# Altium schematic symbol library bethu.SchLib: 608 symbols (part 4 of 6)
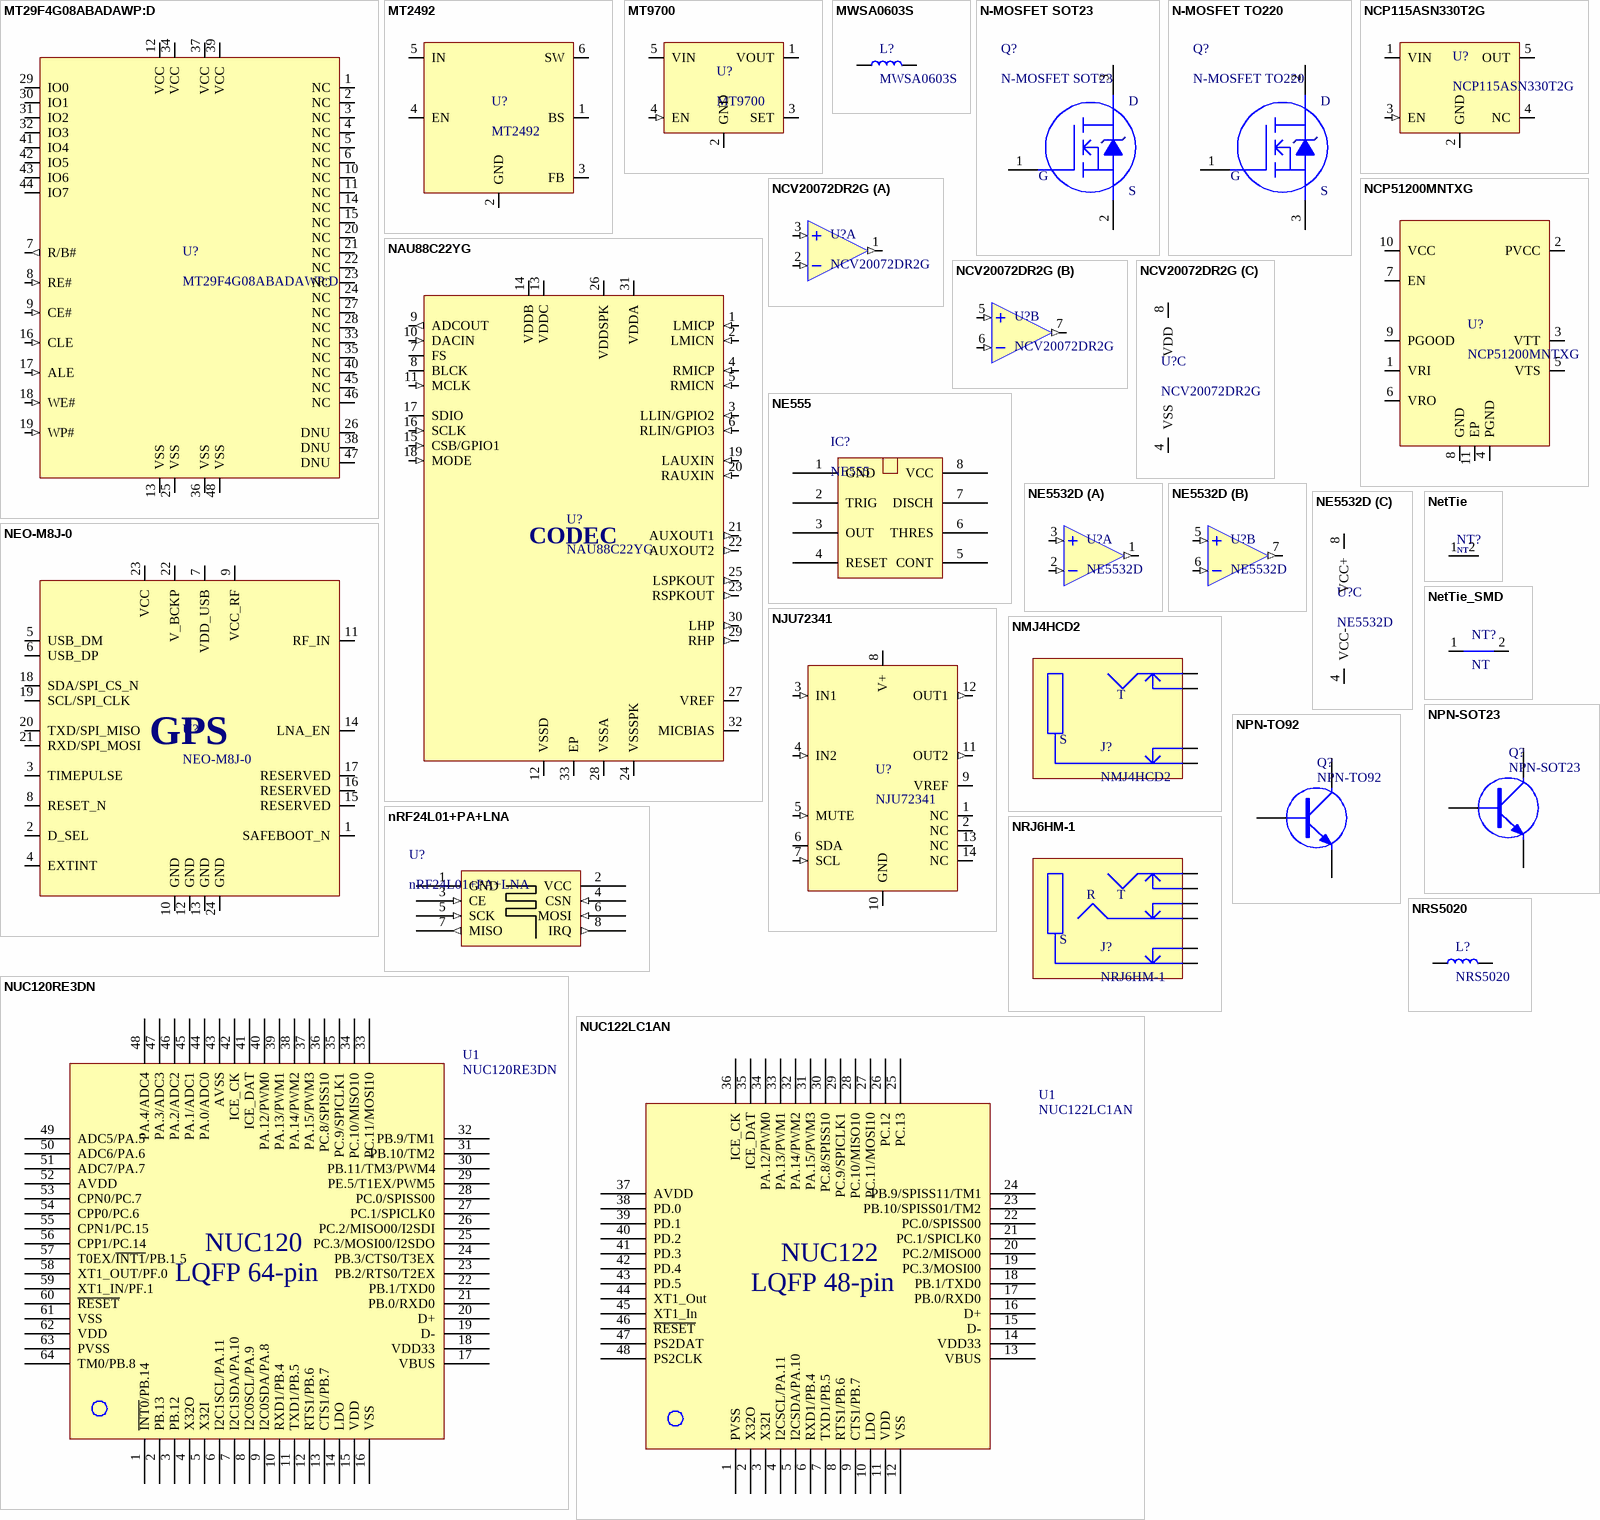
[diagram p43: symbols MT29F4G08ABADAWP:D to NUC122LC1AN]

## NUC122LC1AN
designator U1
footprint LQFP 48 PIN (TSQFP, 48-Leads, Body 9.2x9.2mm (max), Pitch 0.50mm, IPC Medium Density)
pins: 1 PVSS, 2 X32O, 3 X32I, 4 I2CSCL/PA.11, 5 I2CSDA/PA.10, 6 RXD1/PB.4, 7 TXD1/PB.5, 8 RTS1/PB.6, 9 CTS1/PB.7, 10 LDO, 11 VDD, 12 VSS, 13 VBUS, 14 VDD33, 15 D-, 16 D+, 17 PB.0/RXD0, 18 PB.1/TXD0, 19 PC.3/MOSI00, 20 PC.2/MISO00, 21 PC.1/SPICLK0, 22 PC.0/SPISS00, 23 PB.10/SPISS01/TM2, 24 PB.9/SPISS11/TM1, 25 PC.13, 26 PC.12, 27 PC.11/MOSI10, 28 PC.10/MISO10, 29 PC.9/SPICLK1, 30 PC.8/SPISS10, 31 PA.15/PWM3, 32 PA.14/PWM2, 33 PA.13/PWM1, 34 PA.12/PWM0, 35 ICE_DAT, 36 ICE_CK, 37 AVDD, 38 PD.0, 39 PD.1, 40 PD.2, 41 PD.3, 42 PD.4, 43 PD.5, 44 XT1_Out, 45 XT1_In, 46 ~{RESET}, 47 PS2DAT, 48 PS2CLK
text: NUC122; LQFP 48-pin

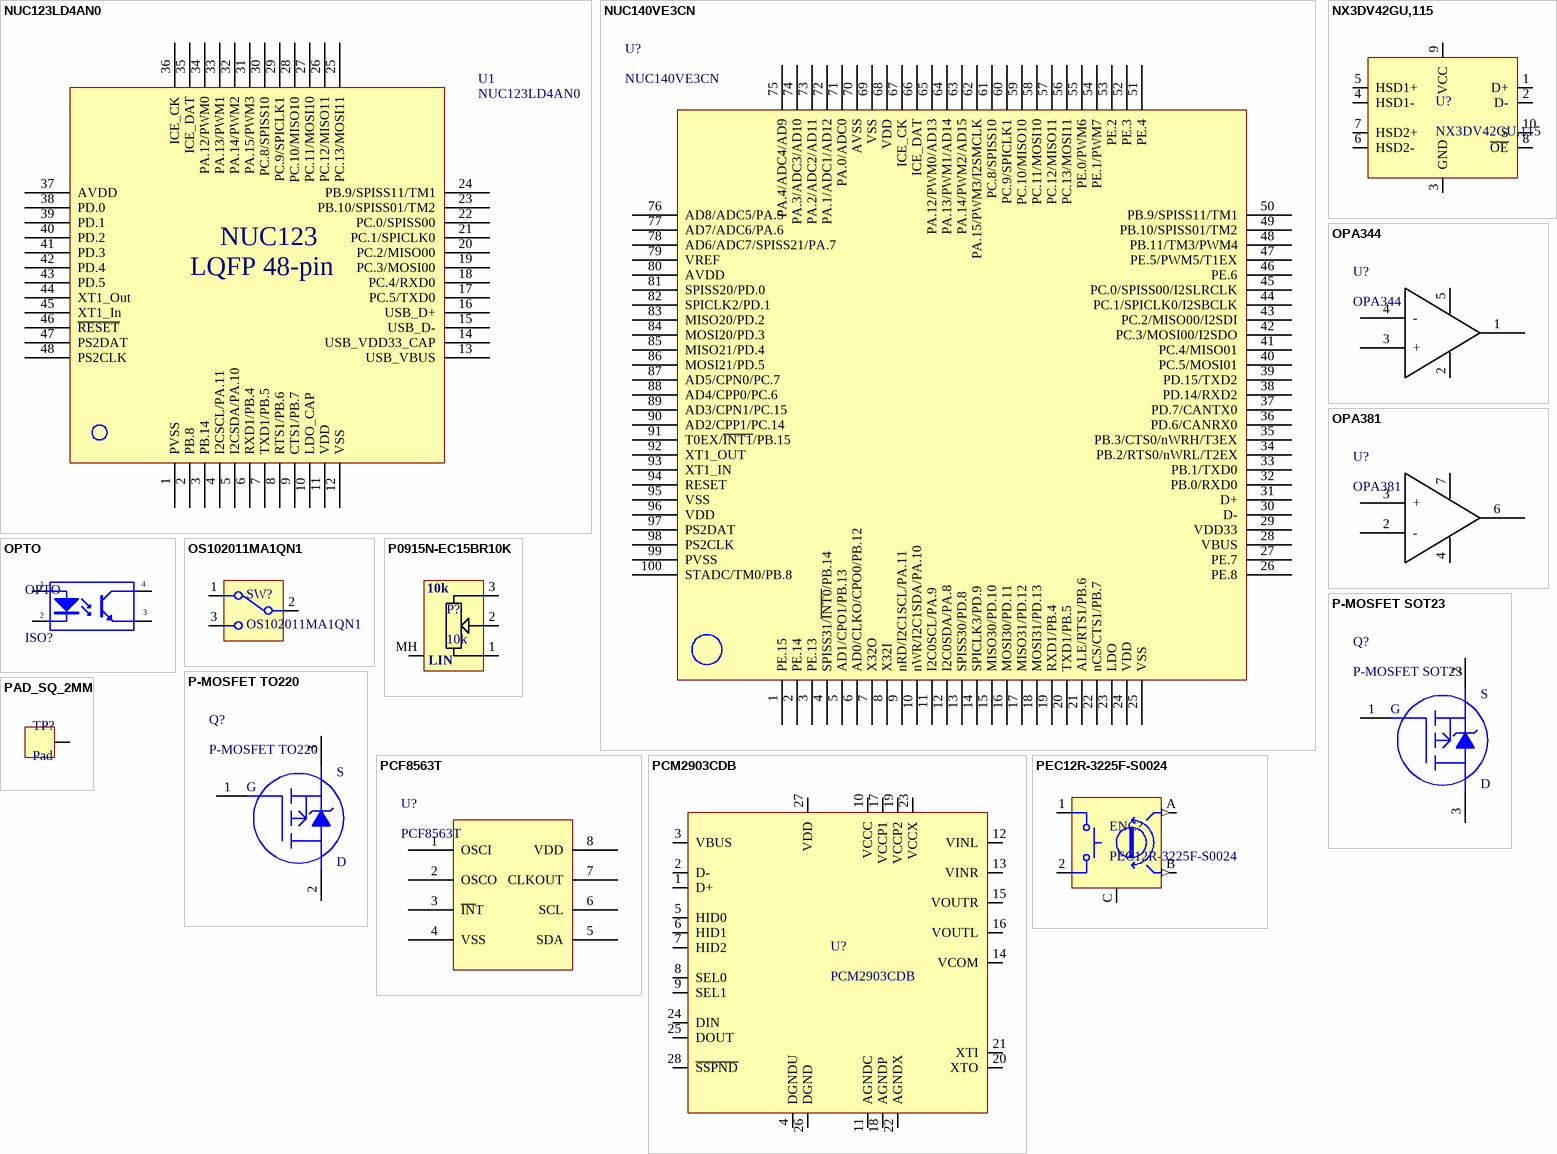
[diagram p23: symbols NUC123LD4AN0 to PEC12R-3225F-S0024]

## NUC123LD4AN0
designator U1
footprint LQFP 48 PIN (TSQFP, 48-Leads, Body 9.2x9.2mm (max), Pitch 0.50mm, IPC Medium Density)
pins: 1 PVSS, 2 PB.8, 3 PB.14, 4 I2CSCL/PA.11, 5 I2CSDA/PA.10, 6 RXD1/PB.4, 7 TXD1/PB.5, 8 RTS1/PB.6, 9 CTS1/PB.7, 10 LDO_CAP, 11 VDD, 12 VSS, 13 USB_VBUS, 14 USB_VDD33_CAP, 15 USB_D-, 16 USB_D+, 17 PC.5/TXD0, 18 PC.4/RXD0, 19 PC.3/MOSI00, 20 PC.2/MISO00, 21 PC.1/SPICLK0, 22 PC.0/SPISS00, 23 PB.10/SPISS01/TM2, 24 PB.9/SPISS11/TM1, 25 PC.13/MOSI11, 26 PC.12/MISO11, 27 PC.11/MOSI10, 28 PC.10/MISO10, 29 PC.9/SPICLK1, 30 PC.8/SPISS10, 31 PA.15/PWM3, 32 PA.14/PWM2, 33 PA.13/PWM1, 34 PA.12/PWM0, 35 ICE_DAT, 36 ICE_CK, 37 AVDD, 38 PD.0, 39 PD.1, 40 PD.2, 41 PD.3, 42 PD.4, 43 PD.5, 44 XT1_Out, 45 XT1_In, 46 ~{RESET}, 47 PS2DAT, 48 PS2CLK
text: NUC123; LQFP 48-pin

## NUC140VE3CN
designator U?
footprint LQFP 100PIN (TSQFP, 100-Leads, Body 16.2x16.2mm (max), Pitch 0.50mm, IPC Low Density)
pins: 1 PE.15, 2 PE.14, 3 PE.13, 4 SPISS31/~{INT0}/PB.14, 5 AD1/CPO1/PB.13, 6 AD0/CLKO/CPO0/PB.12, 7 X32O, 8 X32I, 9 nRD/I2C1SCL/PA.11, 10 nWR/I2C1SDA/PA.10, 11 I2C0SCL/PA.9, 12 I2C0SDA/PA.8, 13 SPISS30/PD.8, 14 SPICLK3/PD.9, 15 MISO30/PD.10, 16 MOSI30/PD.11, 17 MISO31/PD.12, 18 MOSI31/PD.13, 19 RXD1/PB.4, 20 TXD1/PB.5, 21 ALE/RTS1/PB.6, 22 nCS/CTS1/PB.7, 23 LDO, 24 VDD, 25 VSS, 26 PE.8, 27 PE.7, 28 VBUS, 29 VDD33, 30 D-, 31 D+, 32 PB.0/RXD0, 33 PB.1/TXD0, 34 PB.2/RTS0/nWRL/T2EX, 35 PB.3/CTS0/nWRH/T3EX, 36 PD.6/CANRX0, 37 PD.7/CANTX0, 38 PD.14/RXD2, 39 PD.15/TXD2, 40 PC.5/MOSI01, 41 PC.4/MISO01, 42 PC.3/MOSI00/I2SDO, 43 PC.2/MISO00/I2SDI, 44 PC.1/SPICLK0/I2SBCLK, 45 PC.0/SPISS00/I2SLRCLK, 46 PE.6, 47 PE.5/PWM5/T1EX, 48 PB.11/TM3/PWM4, 49 PB.10/SPISS01/TM2, 50 PB.9/SPISS11/TM1, 51 PE.4, 52 PE.3, 53 PE.2, 54 PE.1/PWM7, 55 PE.0/PWM6, 56 PC.13/MOSI11, 57 PC.12/MISO11, 58 PC.11/MOSI10, 59 PC.10/MISO10, 60 PC.9/SPICLK1, 61 PC.8/SPISS10, 62 PA.15/PWM3/I2SMCLK, 63 PA.14/PWM2/AD15, 64 PA.13/PWM1/AD14, 65 PA.12/PWM0/AD13, 66 ICE_DAT, 67 ICE_CK, 68 VDD, 69 VSS, 70 AVSS, 71 PA.0/ADC0, 72 PA.1/ADC1/AD12, 73 PA.2/ADC2/AD11, 74 PA.3/ADC3/AD10, 75 PA.4/ADC4/AD9, 76 AD8/ADC5/PA.5, 77 AD7/ADC6/PA.6, 78 AD6/ADC7/SPISS21/PA.7, 79 VREF, 80 AVDD, 81 SPISS20/PD.0, 82 SPICLK2/PD.1, 83 MISO20/PD.2, 84 MOSI20/PD.3, 85 MISO21/PD.4, 86 MOSI21/PD.5, 87 AD5/CPN0/PC.7, 88 AD4/CPP0/PC.6, 89 AD3/CPN1/PC.15, 90 AD2/CPP1/PC.14, 91 T0EX/~{INT1}/PB.15, 92 XT1_OUT, 93 XT1_IN, 94 RESET, 95 VSS, 96 VDD, 97 PS2DAT, 98 PS2CLK, 99 PVSS, 100 STADC/TM0/PB.8

## NX3DV42GU,115
designator U?
USB2.0 HS DPDT Switch; Manufacturer: NXP Semiconductors; Manufacturer Part Number: NX3DV42GU,115
footprint XQFN-10_SOT1160-1
pins: 1 D+, 2 D-, 3 GND, 4 HSD1-, 5 HSD1+, 6 HSD2-, 7 HSD2+, 8 ~{OE}, 9 VCC, 10 S

## OPA344
designator U?
pins: 1, 2, 3 +, 4 -, 5

## OPA381
designator U?
pins: 2 -, 3 +, 4, 6, 7

## OPTO
designator ISO?
Value: TLP5211
footprint PC817 SMD (SMD)
pins: 1 A "Anode", 2 K "Cathode", 3 E "Emitter", 4 C "Collector"

## OS102011MA1QN1
designator SW?
Slide Switch SPDT Horizontal THT; Manufacturer: C&K; Manufacturer Part Number: OS102011MA1QN1
footprint OS102011MA1QN1
pins: 1, 2 COM, 3

## P0915N-EC15BR10K
designator P?, comment 10k
Potentiometer Vertical 10k Linear Taper THT PCB-Mount Smooth Shaft w/ Slot D=6mm L=15mm; Manufacturer: TT Electronics; Manufacturer Part Number: P0915N-EC15BR10K
footprint P0915N-EC15BR10K
pins: 1, 2, 3, MH
text: LIN

## P-MOSFET SOT23
designator Q?
footprint SOT23 - 3PIN
pins: 1 G, 2 S, 3 D

## P-MOSFET TO220
designator Q?
footprint TO-220 - FLAT
pins: 1 G, 2 D, 3 S

## PAD_SQ_2MM
designator TP?, comment Pad  (no BOM)
Test Point Square 2mm
footprint PAD_SQ_2MM
pins: 1

## PCF8563T
designator U?
footprint TSSOP 8 PIN
pins: 1 OSCI, 2 OSCO, 3 ~{IN}T, 4 VSS, 5 SDA, 6 SCL, 7 CLKOUT, 8 VDD

## PCM2903CDB
designator U?
Stereo USB1.1 CODEC with line-out and S/PDIF I/O, Self-powered (HID Interface); Manufacturer: Texas Instruments; Manufacturer Part Number: PCM2903CDB
footprint SSOP-28
pins: 1 D+, 2 D-, 3 VBUS, 4 DGNDU, 5 HID0, 6 HID1, 7 HID2, 8 SEL0, 9 SEL1, 10 VCCC, 11 AGNDC, 12 VINL, 13 VINR, 14 VCOM, 15 VOUTR, 16 VOUTL, 17 VCCP1, 18 AGNDP, 19 VCCP2, 20 XTO, 21 XTI, 22 AGNDX, 23 VCCX, 24 DIN, 25 DOUT, 26 DGND, 27 VDD, 28 ~{SSPND}

## PEC12R-3225F-S0024
designator ENC?
Rotary Encoder with Switch 20 Detents 7mm Bushing 20mm Threaded Shaft Vertical; Manufacturer: Bourns; Manufacturer Part Number: PEC12R-3225F-S0024; Distributor Link: https://www.mouser.de/ProductDetail/Bourns/PEC12R-3225F-S0024?qs=%252B9%2Fcbd0IE0RkGCm1rUs7CA%3D%3D
footprint PEC12R-3225F-S
pins: 1, 2, A (out), B (out), C GND (power)

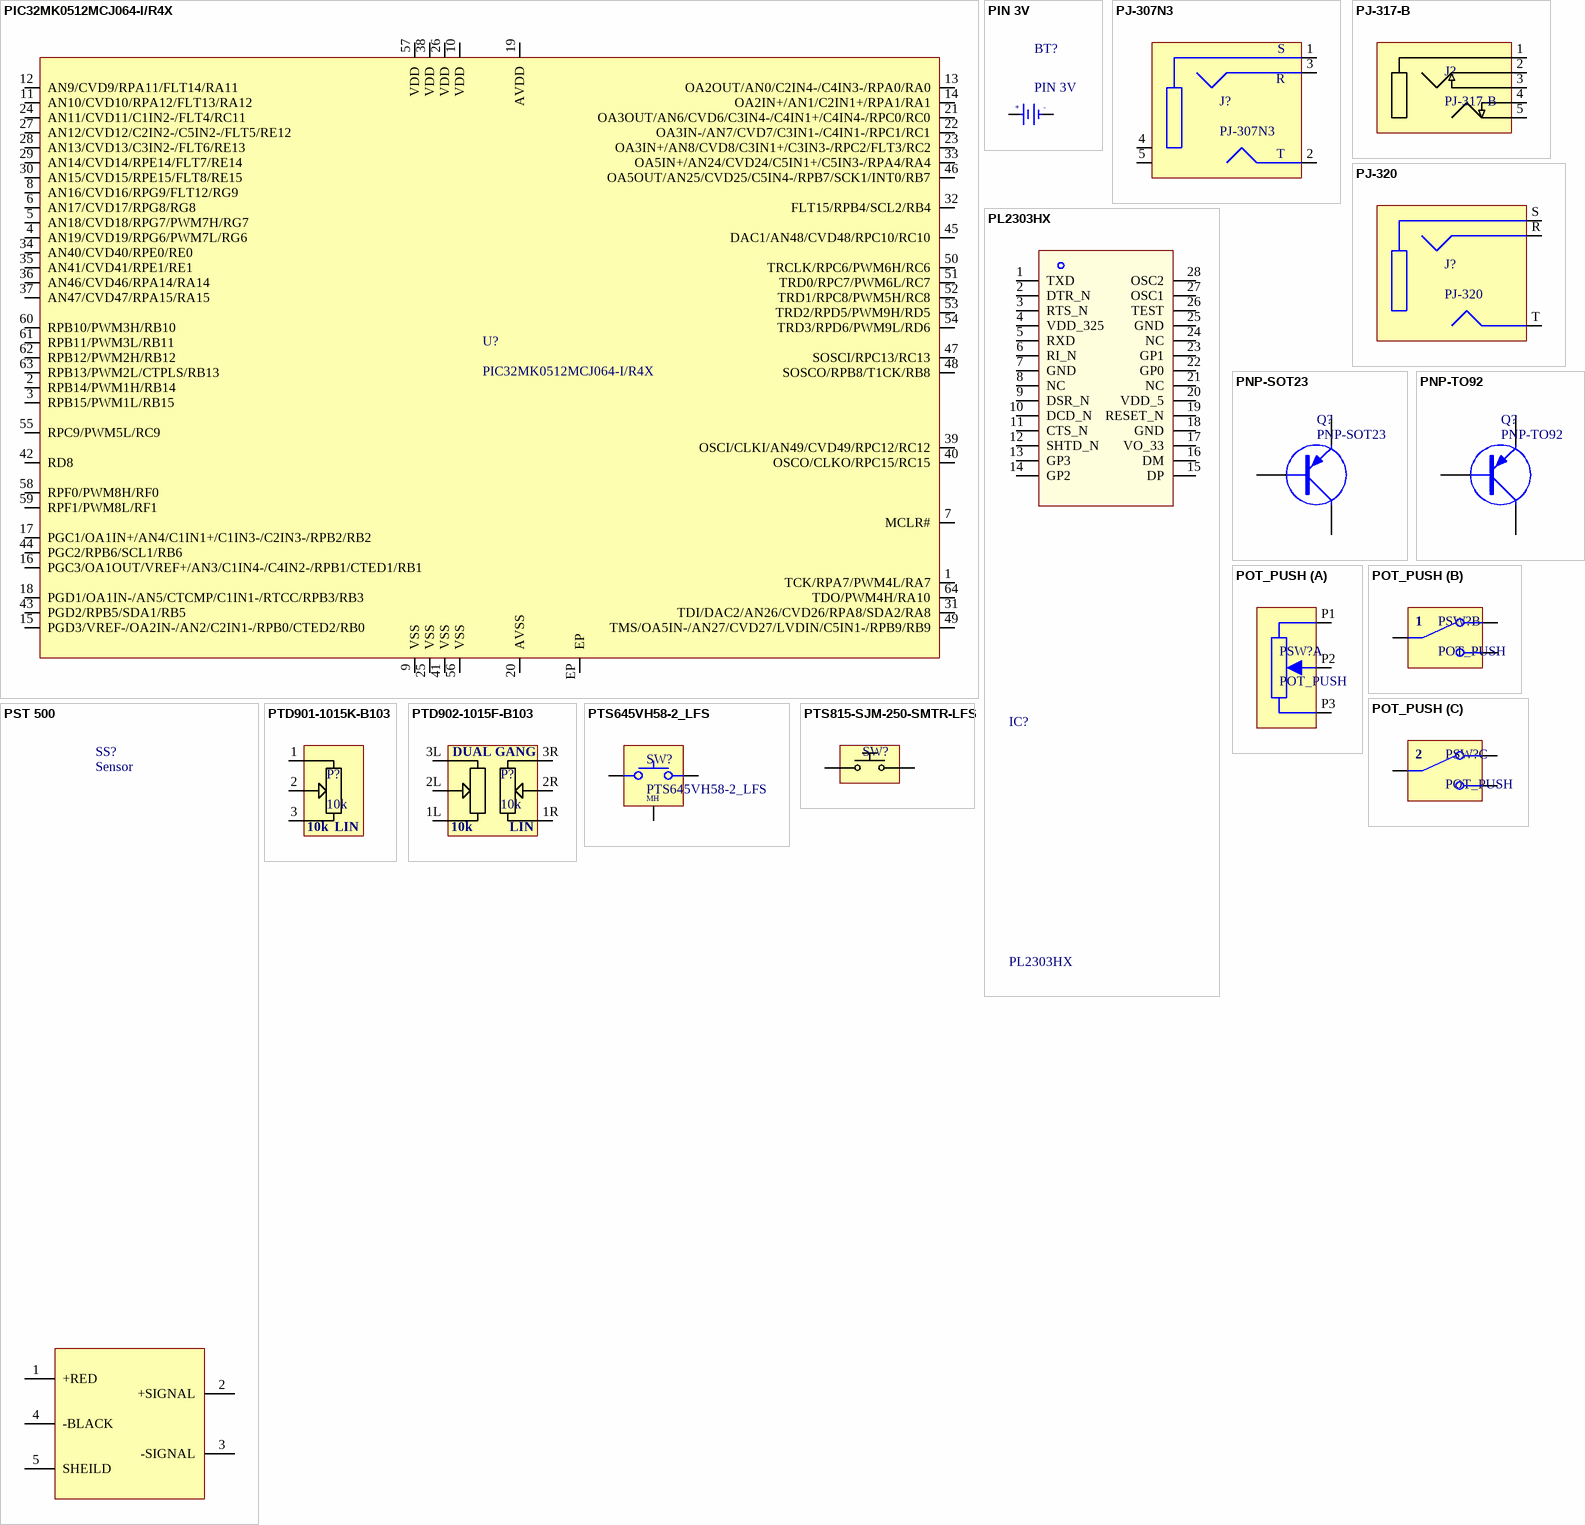
[diagram p24: symbols PIC32MK0512MCJ064-I/R4X to PTS815-SJM-250-SMTR-LFS]

## PIC32MK0512MCJ064-I/R4X
designator U?
32-bit Motor Control Application MCU with CAN FD, FPU, ECC Flash, 512kB Flash, 64kB SRAM, and Op amps; Manufacturer: Microchip; Manufacturer Part Number: PIC32MK0512MCJ064-I/R4X
footprint QFN-64-9x9x0.9-0.5P (QFN, 64-Leads, Body 9.00x9.00mm, Pitch 0.50mm, Thermal Pad 5.40x5.40mm, IPC Medium Density)
pins: 1 TCK/RPA7/PWM4L/RA7, 2 RPB14/PWM1H/RB14, 3 RPB15/PWM1L/RB15, 4 AN19/CVD19/RPG6/PWM7L/RG6, 5 AN18/CVD18/RPG7/PWM7H/RG7, 6 AN17/CVD17/RPG8/RG8, 7 MCLR#, 8 AN16/CVD16/RPG9/FLT12/RG9, 9 VSS (power), 10 VDD (power), 11 AN10/CVD10/RPA12/FLT13/RA12, 12 AN9/CVD9/RPA11/FLT14/RA11, 13 OA2OUT/AN0/C2IN4-/C4IN3-/RPA0/RA0, 14 OA2IN+/AN1/C2IN1+/RPA1/RA1, 15 PGD3/VREF-/OA2IN-/AN2/C2IN1-/RPB0/CTED2/RB0, 16 PGC3/OA1OUT/VREF+/AN3/C1IN4-/C4IN2-/RPB1/CTED1/RB1, 17 PGC1/OA1IN+/AN4/C1IN1+/C1IN3-/C2IN3-/RPB2/RB2, 18 PGD1/OA1IN-/AN5/CTCMP/C1IN1-/RTCC/RPB3/RB3, 19 AVDD (power), 20 AVSS (power), 21 OA3OUT/AN6/CVD6/C3IN4-/C4IN1+/C4IN4-/RPC0/RC0, 22 OA3IN-/AN7/CVD7/C3IN1-/C4IN1-/RPC1/RC1, 23 OA3IN+/AN8/CVD8/C3IN1+/C3IN3-/RPC2/FLT3/RC2, 24 AN11/CVD11/C1IN2-/FLT4/RC11, 25 VSS (power), 26 VDD (power), 27 AN12/CVD12/C2IN2-/C5IN2-/FLT5/RE12, 28 AN13/CVD13/C3IN2-/FLT6/RE13, 29 AN14/CVD14/RPE14/FLT7/RE14, 30 AN15/CVD15/RPE15/FLT8/RE15, 31 TDI/DAC2/AN26/CVD26/RPA8/SDA2/RA8, 32 FLT15/RPB4/SCL2/RB4, 33 OA5IN+/AN24/CVD24/C5IN1+/C5IN3-/RPA4/RA4, 34 AN40/CVD40/RPE0/RE0, 35 AN41/CVD41/RPE1/RE1, 36 AN46/CVD46/RPA14/RA14, 37 AN47/CVD47/RPA15/RA15, 38 VDD (power), 39 OSCI/CLKI/AN49/CVD49/RPC12/RC12, 40 OSCO/CLKO/RPC15/RC15, 41 VSS (power), 42 RD8, 43 PGD2/RPB5/SDA1/RB5, 44 PGC2/RPB6/SCL1/RB6, 45 DAC1/AN48/CVD48/RPC10/RC10, 46 OA5OUT/AN25/CVD25/C5IN4-/RPB7/SCK1/INT0/RB7, 47 SOSCI/RPC13/RC13, 48 SOSCO/RPB8/T1CK/RB8, 49 TMS/OA5IN-/AN27/CVD27/LVDIN/C5IN1-/RPB9/RB9, 50 TRCLK/RPC6/PWM6H/RC6, 51 TRD0/RPC7/PWM6L/RC7, 52 TRD1/RPC8/PWM5H/RC8, 53 TRD2/RPD5/PWM9H/RD5, 54 TRD3/RPD6/PWM9L/RD6, 55 RPC9/PWM5L/RC9, 56 VSS (power), 57 VDD (power), 58 RPF0/PWM8H/RF0, 59 RPF1/PWM8L/RF1, 60 RPB10/PWM3H/RB10, 61 RPB11/PWM3L/RB11, 62 RPB12/PWM2H/RB12, 63 RPB13/PWM2L/CTPLS/RB13, 64 TDO/PWM4H/RA10, EP (power)

## PIN 3V
designator BT?
Value: PIN 3V
footprint PIN3V (Socket PIN 3V)
pins: 1 +3V, 2 GND
text: +; -

## PJ-307N3
designator J?
3.5mm Headphone Jack THT; Manufacturer: XKB Connectivity; Manufacturer Part Number: PJ-307N3
footprint PJ-307N3
pins: 1 Sleeve, 2 Tip, 3 Ring, 4 NC, 5 NC
text: S; R; T

## PJ-317-B
designator J?
3.5mm 5-Position Audio Jack Horizontal Female THT; Manufacturer: XKB; Manufacturer Part Number: PJ-317-B
footprint PJ-317-B
pins: 1, 2, 3, 4, 5

## PJ-320
designator J?
3.5mm Headphone Jack THT; Manufacturer: XKB Connectivity; Manufacturer Part Number: PJ-320
footprint PJ-320
pins: R Ring, S Sleeve, T Tip

## PL2303HX
designator IC?
USB - RS232 Converter; Value: PL2303
footprint SSOP28
pins: 1 TXD, 2 DTR_N, 3 RTS_N, 4 VDD_325, 5 RXD, 6 RI_N, 7 GND, 8 NC, 9 DSR_N, 10 DCD_N, 11 CTS_N, 12 SHTD_N, 13 GP3, 14 GP2, 15 DP, 16 DM, 17 VO_33, 18 GND, 19 RESET_N, 20 VDD_5, 21 NC, 22 GP0, 23 GP1, 24 NC, 25 GND, 26 TEST, 27 OSC1, 28 OSC2

## PNP-SOT23
designator Q?
footprint SOT23 - 3PIN
pins: 1 B, 2 E, 3 C

## PNP-TO92
designator Q?
footprint TO-92 (TO, Flat Index; 3 In-Line, Axial Leads; Body Dia. 4.8mm)
pins: 1 E, 2 B, 3 C

## POT_PUSH
designator PSW?
Potentiometer Push-Pull/Push-Push Through-Hole Generic; Manufacturer: *; Manufacturer Part Number: *
footprint POT_PUSH
part A pins: P1 1, P2 2, P3 3
part B pins: SW1COM COM, SW1NC NC, SW1NO NO
part C pins: SW2COM COM, SW2NC NC, SW2NO NO

## PST 500
designator SS?, comment Sensor
Value: VR 10K
footprint Header CH5.96 MALE
pins: 1 +RED, 2 +SIGNAL, 3 -SIGNAL, 4 -BLACK, 5 SHEILD

## PTD901-1015K-B103
designator P?, comment 10k
Potentiometer Horizontal 10k Linear Taper 10% Knurled Shaft THT PCB-Mount; Manufacturer: Bourns; Manufacturer Part Number: PTD901-1015K-B103; Distributor Link: https://eu.mouser.com/ProductDetail/Bourns/PTD901-1015K-B103?qs=h2IHEVivlqCjfZBh0jm4Mw%3D%3D
footprint PTD901-XX15K
pins: 1, 2, 3
text: LIN

## PTD902-1015F-B103
designator P?, comment 10k
Potentiometer Horizontal 10k Dual Gang Linear Taper 10% THT PCB-Mount; Manufacturer: Bourns; Manufacturer Part Number: PTD902-1015F-B103
footprint PTD902-XX15F
pins: 1L 1, 1R 1, 2L 2, 2R 2, 3L 3, 3R 3
text: DUAL GANG; LIN

## PTS645VH58-2_LFS
designator SW?
Tactile Switch THT Right-Angle; Manufacturer: C&K; Manufacturer Part Number: PTS645VH58-2 LFS; Distributor Link: https://www.mouser.de/ProductDetail/CK/PTS645VH58-2-LFS?qs=rqnA19JZHeRF88sNwv94nA%3D%3D
footprint PTS645VH58-2-LFS
pins: 1, 2, MH

## PTS815-SJM-250-SMTR-LFS
designator SW?, comment Tactile Switch  (value not drawn)
Tactile Switches Tact Switch, 12 VDC, 50 mA, 4.2x3.2, 2.5mm H, 180gf, J leadspp SPST; Manufacturer: C&K Switches; Manufacturer Part Number: PTS815 SJM 250 SMTR LFS
footprint PTS815
pins: 1, 2

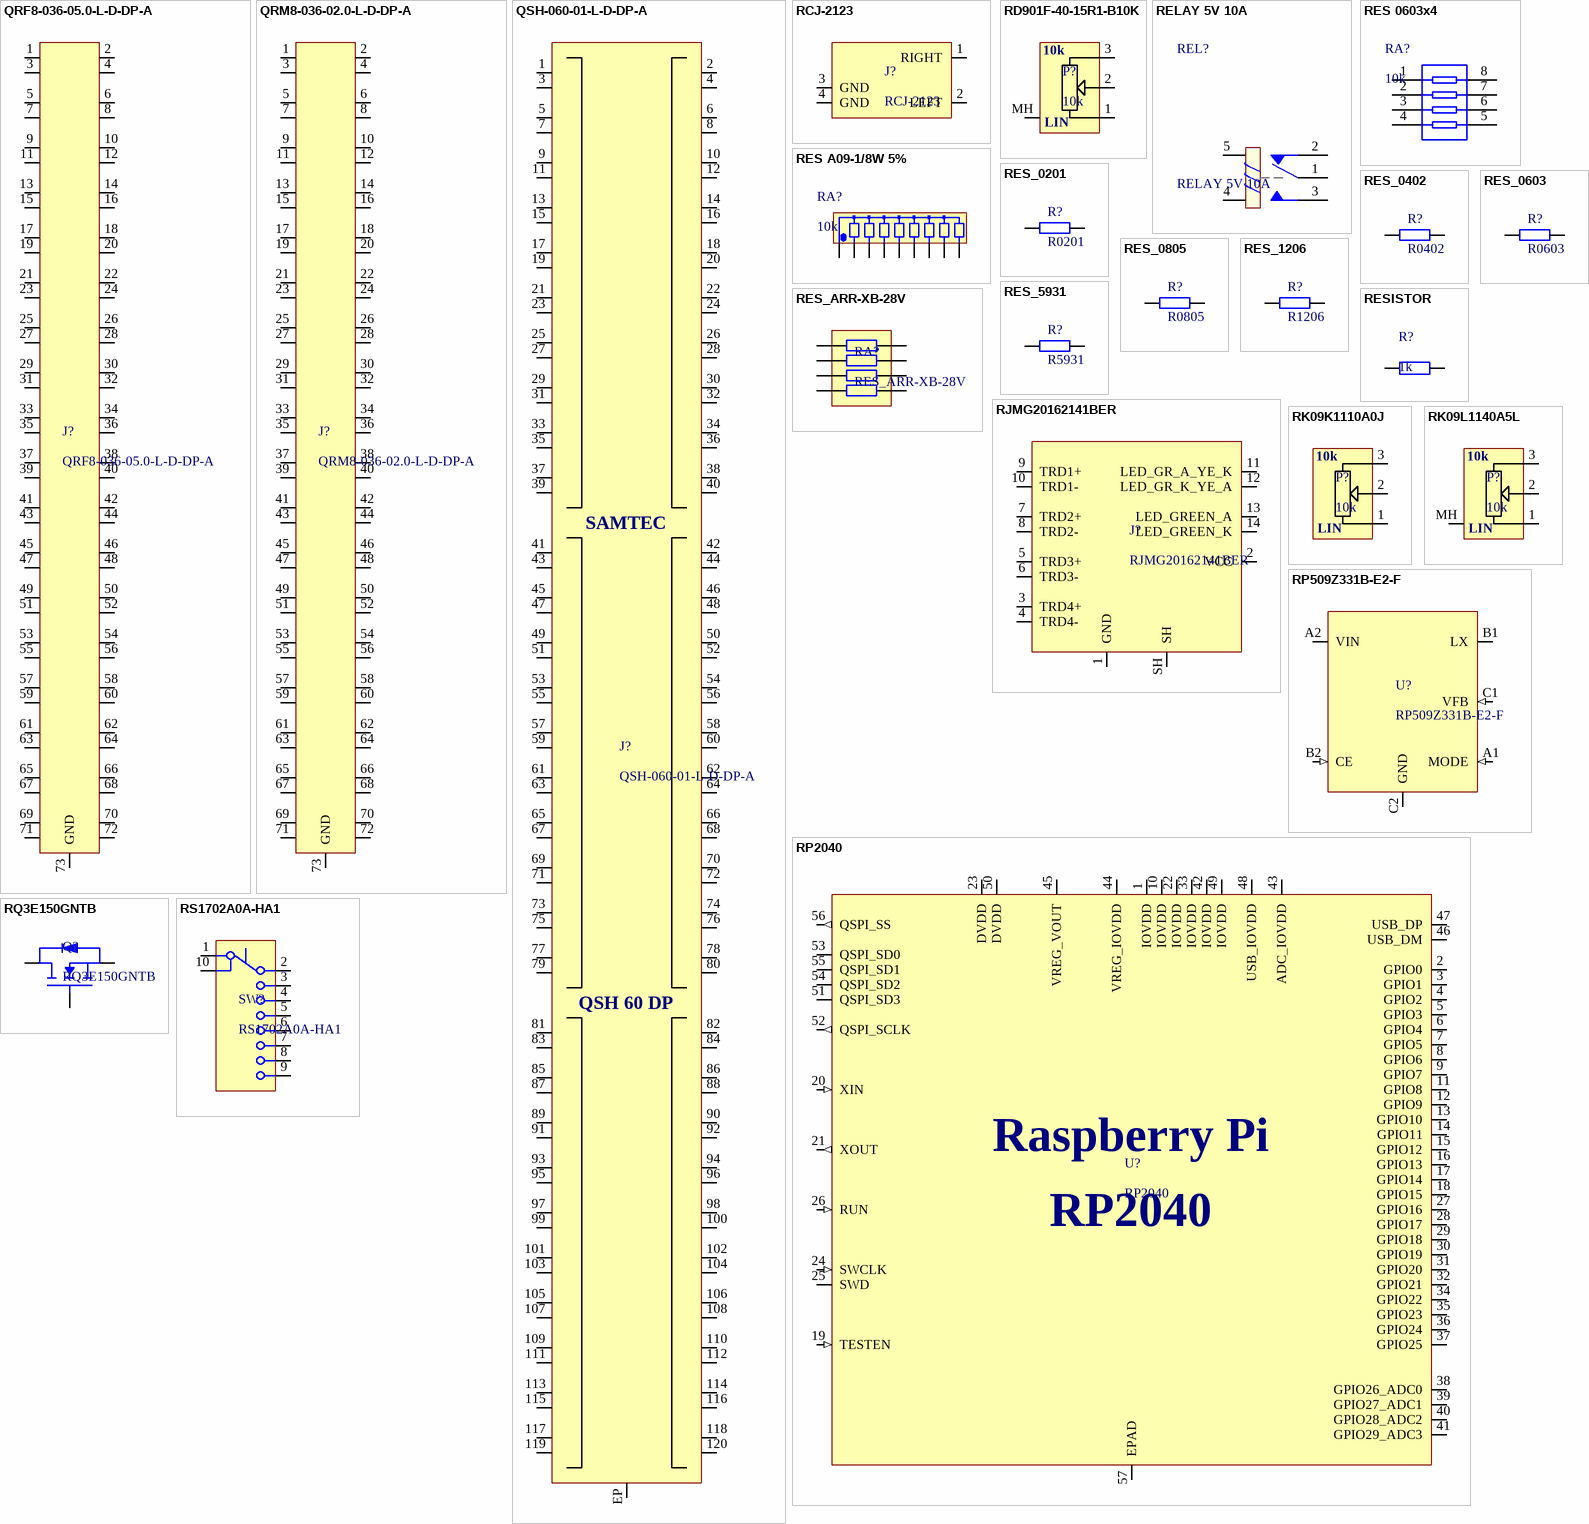
[diagram p25: symbols QRF8-036-05.0-L-D-DP-A to RS1702A0A-HA1]

## QRF8-036-05.0-L-D-DP-A
designator J?
Board to Board & Mezzanine Connectors 0.80 mm Q Rate Slim Body Ground Plane Socket; Manufacturer: Samtec; Manufacturer Part Number: QRF8-036-05.0-L-D-DP-A
footprint QRF8-036-05.0-X-D-DP-A
pins: 1, 2, 3, 4, 5, 6, 7, 8, 9, 10, 11, 12, 13, 14, 15, 16, 17, 18, 19, 20, 21, 22, 23, 24, 25, 26, 27, 28, 29, 30, 31, 32, 33, 34, 35, 36, 37, 38, 39, 40, 41, 42, 43, 44, 45, 46, 47, 48, 49, 50, 51, 52, 53, 54, 55, 56, 57, 58, 59, 60, 61, 62, 63, 64, 65, 66, 67, 68, 69, 70, 71, 72, 73 GND

## QRM8-036-02.0-L-D-DP-A
designator J?
Board to Board & Mezzanine Connectors 0.80 mm Q Rate Slim Body Ground Plane Header; Manufacturer: Samtec; Manufacturer Part Number: QRM8-036-02.0-L-D-DP-A
footprint QRM8-036-02.0-L-D-DP-A
pins: 1, 2, 3, 4, 5, 6, 7, 8, 9, 10, 11, 12, 13, 14, 15, 16, 17, 18, 19, 20, 21, 22, 23, 24, 25, 26, 27, 28, 29, 30, 31, 32, 33, 34, 35, 36, 37, 38, 39, 40, 41, 42, 43, 44, 45, 46, 47, 48, 49, 50, 51, 52, 53, 54, 55, 56, 57, 58, 59, 60, 61, 62, 63, 64, 65, 66, 67, 68, 69, 70, 71, 72, 73 GND

## QSH-060-01-L-D-DP-A
designator J?
0.50 mm Q Pairs® High-Speed Ground Plane Socket Strip, Differential Pair 120 Positions; Manufacturer: Samtec; Manufacturer Part Number: QSH-060-01-L-D-DP-A
footprint QSH-060-01-L-D-DP-A
pins: 1, 2, 3, 4, 5, 6, 7, 8, 9, 10, 11, 12, 13, 14, 15, 16, 17, 18, 19, 20, 21, 22, 23, 24, 25, 26, 27, 28, 29, 30, 31, 32, 33, 34, 35, 36, 37, 38, 39, 40, 41, 42, 43, 44, 45, 46, 47, 48, 49, 50, 51, 52, 53, 54, 55, 56, 57, 58, 59, 60, 61, 62, 63, 64, 65, 66, 67, 68, 69, 70, 71, 72, 73, 74, 75, 76, 77, 78, 79, 80, 81, 82, 83, 84, 85, 86, 87, 88, 89, 90, 91, 92, 93, 94, 95, 96, 97, 98, 99, 100, 101, 102, 103, 104, 105, 106, 107, 108, 109, 110, 111, 112, 113, 114, 115, 116, 117, 118, 119, 120, EP
text: SAMTEC; QSH 60 DP

## RCJ-2123
designator J?
RCA Phono Connectors Dual Red White PCB Mount RIght-Angle THT; Manufacturer: CUI; Manufacturer Part Number: RCJ-2123
footprint RCJ-2123
pins: 1 RIGHT, 2 LEFT, 3 GND, 4 GND

## RD901F-40-15R1-B10K
designator P?, comment 10k
Potentiometer Vertical 10k 20% Linear Taper THT PCB-Mount 6/15mm Shaft Smooth; Manufacturer: Alps Alpine; Manufacturer Part Number: RD901F-40-15R1-B10K; Distributor Link: https://www.mouser.de/ProductDetail/Alpha-Taiwan/RD901F-40-15R1-B10K-00DL1?qs=1mbolxNpo8c1WX5KjxIjjw%3D%3D
footprint RD901F-40-15R1
pins: 1, 2, 3, MH
text: LIN

## RELAY 5V 10A
designator REL?
footprint RELAY 5V-10A
pins: 1, 2, 3, 4, 5

## RES 0603x4
designator RA?, comment 10k
footprint RES ARRAY 1206 (0603x4)
pins: 1, 2, 3, 4, 5, 6, 7, 8

## RES A09-1/8W 5%
designator RA?, comment 10k
footprint RES A09-1/8W 5%
pins: 1, 2, 3, 4, 5, 6, 7, 8, 9

## RES_0201
designator R?, comment R0201
Resistor SMD 0201; Manufacturer: *; Manufacturer Part Number: *; Distributor Link: *; LCSC: *
footprint RES_0201
pins: 1, 2

## RES_0402
designator R?, comment R0402
Resistor SMD 0402; Manufacturer: *; Manufacturer Part Number: *; Distributor Link: *; LCSC: *
footprint RES_0402
pins: 1, 2

## RES_0603
designator R?, comment R0603
Resistor SMD 0603; Manufacturer: *; Manufacturer Part Number: *; Distributor Link: *; LCSC: *
footprint RES_0603
pins: 1, 2

## RES_0805
designator R?, comment R0805
Resistor SMD 0805; Manufacturer: *; Manufacturer Part Number: *; Distributor Link: *; LCSC: *
footprint RES_0805
pins: 1, 2

## RES_1206
designator R?, comment R1206
Resistor SMD 1206; Manufacturer: *; Manufacturer Part Number: *; Distributor Link: *; LCSC: *
footprint RES_1206
pins: 1, 2

## RES_5931
designator R?, comment R5931
Current Sense Resistor SMD 0805; Manufacturer: *; Manufacturer Part Number: *; Distributor Link: *
footprint RES_5931
pins: 1, 2

## RES_ARR-XB-28V
designator RA?
Resistor Array 0402 4 Elements Panasonic EXB-28V; Manufacturer: Panasonic
footprint EXB-28V
pins: 1, 2, 3, 4, 5, 6, 7, 8

## RESISTOR
designator R?, comment 1k
Value: R1/4W - 1K
footprint RESISTOR (R 1/2W, 2 pin, 300mil)
footprint R1/8W (R 1/8W, 2 pin, 300mil)
footprint R1/2W (R 1/2W, 2 pin, 400mil)
footprint R1/4WD (R 1/4W, 2 Pin, 150mil)
footprint 0805 RESISTOR (Compoment SMD 80x50mil)
pins: 1, 2

## RJMG20162141BER
designator J?
100/1000Base-T Magnetics Single-Port RJ45 Connector with Integrated Magnetics and LEDs; Manufacturer: Amphenol; Manufacturer Part Number: RJMG20162141BER; Distributor Link: https://www.mouser.de/ProductDetail/Amphenol-Commercial-Products/RJMG20162141BER?qs=AVT0UMTfAuItaMrM1bOyzg%3D%3D; LCSC: C5433552
footprint RJMG20162141BER
pins: 1 GND, 2 VCC, 3 TRD4+ (io), 4 TRD4- (io), 5 TRD3+ (io), 6 TRD3- (io), 7 TRD2+ (io), 8 TRD2- (io), 9 TRD1+ (io), 10 TRD1- (io), 11 LED_GR_A_YE_K, 12 LED_GR_K_YE_A, 13 LED_GREEN_A, 14 LED_GREEN_K, SH

## RK09K1110A0J
designator P?, comment 10k
Potentiometer Horizontal 10k Linear Taper (1B) 20% THT PCB-Mount; Manufacturer: ALPSALPINE; Manufacturer Part Number: RK09K1110A0J
footprint RK09K1110A0J
pins: 1, 2, 3
text: LIN

## RK09L1140A5L
designator P?, comment 10k
Potentiometer Vertical 10k Linear Taper (1B) THT PCB-Mount D-Type 6mm Shaft; Manufacturer: Alps Alpine; Manufacturer Part Number: RK09L1140A5L
footprint RK09L1140A5L
pins: 1, 2, 3, MH
text: LIN

## RP509Z331B-E2-F
designator U?
0.5A/1A PWM/VFM Step-down DC/DC Converter with Synchronous Rectifier; Manufacturer: Nisshinbo; Manufacturer Part Number: RP509Z331B-E2-F; Distributor Link: https://www.mouser.de/ProductDetail/Nisshinbo/RP509Z331B-E2-F?qs=sGAEpiMZZMsMIqGZiACxIaRXO1%252BRokEQs7docw04LJAW9g0rX9qA6Q%3D%3D
footprint WLCSP-6-P6
pins: A1 MODE (in), A2 VIN (power), B1 LX (power), B2 CE (in), C1 VFB (in), C2 GND (power)

## RP2040
designator U?
32-Bit Dual-Core ARM Cortex-M0+ Microcontroller; Manufacturer: Raspberry Pi; Manufacturer Part Number: RP2040
footprint QFN-56-EP
pins: 1 IOVDD (power), 2 GPIO0 (io), 3 GPIO1 (io), 4 GPIO2 (io), 5 GPIO3 (io), 6 GPIO4 (io), 7 GPIO5 (io), 8 GPIO6 (io), 9 GPIO7 (io), 10 IOVDD (power), 11 GPIO8 (io), 12 GPIO9 (io), 13 GPIO10 (io), 14 GPIO11 (io), 15 GPIO12 (io), 16 GPIO13 (io), 17 GPIO14 (io), 18 GPIO15 (io), 19 TESTEN (in), 20 XIN (in), 21 XOUT (out), 22 IOVDD (power), 23 DVDD (power), 24 SWCLK (in), 25 SWD (io), 26 RUN (in), 27 GPIO16 (io), 28 GPIO17 (io), 29 GPIO18 (io), 30 GPIO19 (io), 31 GPIO20 (io), 32 GPIO21 (io), 33 IOVDD (power), 34 GPIO22 (io), 35 GPIO23 (io), 36 GPIO24 (io), 37 GPIO25 (io), 38 GPIO26_ADC0 (io), 39 GPIO27_ADC1 (io), 40 GPIO28_ADC2 (io), 41 GPIO29_ADC3 (io), 42 IOVDD (power), 43 ADC_IOVDD (power), 44 VREG_IOVDD (power), 45 VREG_VOUT (power), 46 USB_DM (io), 47 USB_DP (io), 48 USB_IOVDD (power), 49 IOVDD (power), 50 DVDD (power), 51 QSPI_SD3 (io), 52 QSPI_SCLK (out), 53 QSPI_SD0 (io), 54 QSPI_SD2 (io), 55 QSPI_SD1 (io), 56 QSPI_SS (out), 57 EPAD (power)

## RQ3E150GNTB
designator Q?
Nch 30V 39A Middle Power MOSFET; Manufacturer: ROHM; Manufacturer Part Number: RQ3E150GNTB
footprint HSMT-8
pins: D, G, S

## RS1702A0A-HA1
designator SW?
Rotarye Switch 10-Position THT; Manufacturer: Soundwell; Manufacturer Part Number: RS1702A0A-HA1
footprint RS1702A0A-HA1-5-012
pins: 1 COM, 2, 3, 4, 5, 6, 7, 8, 9, 10 COM

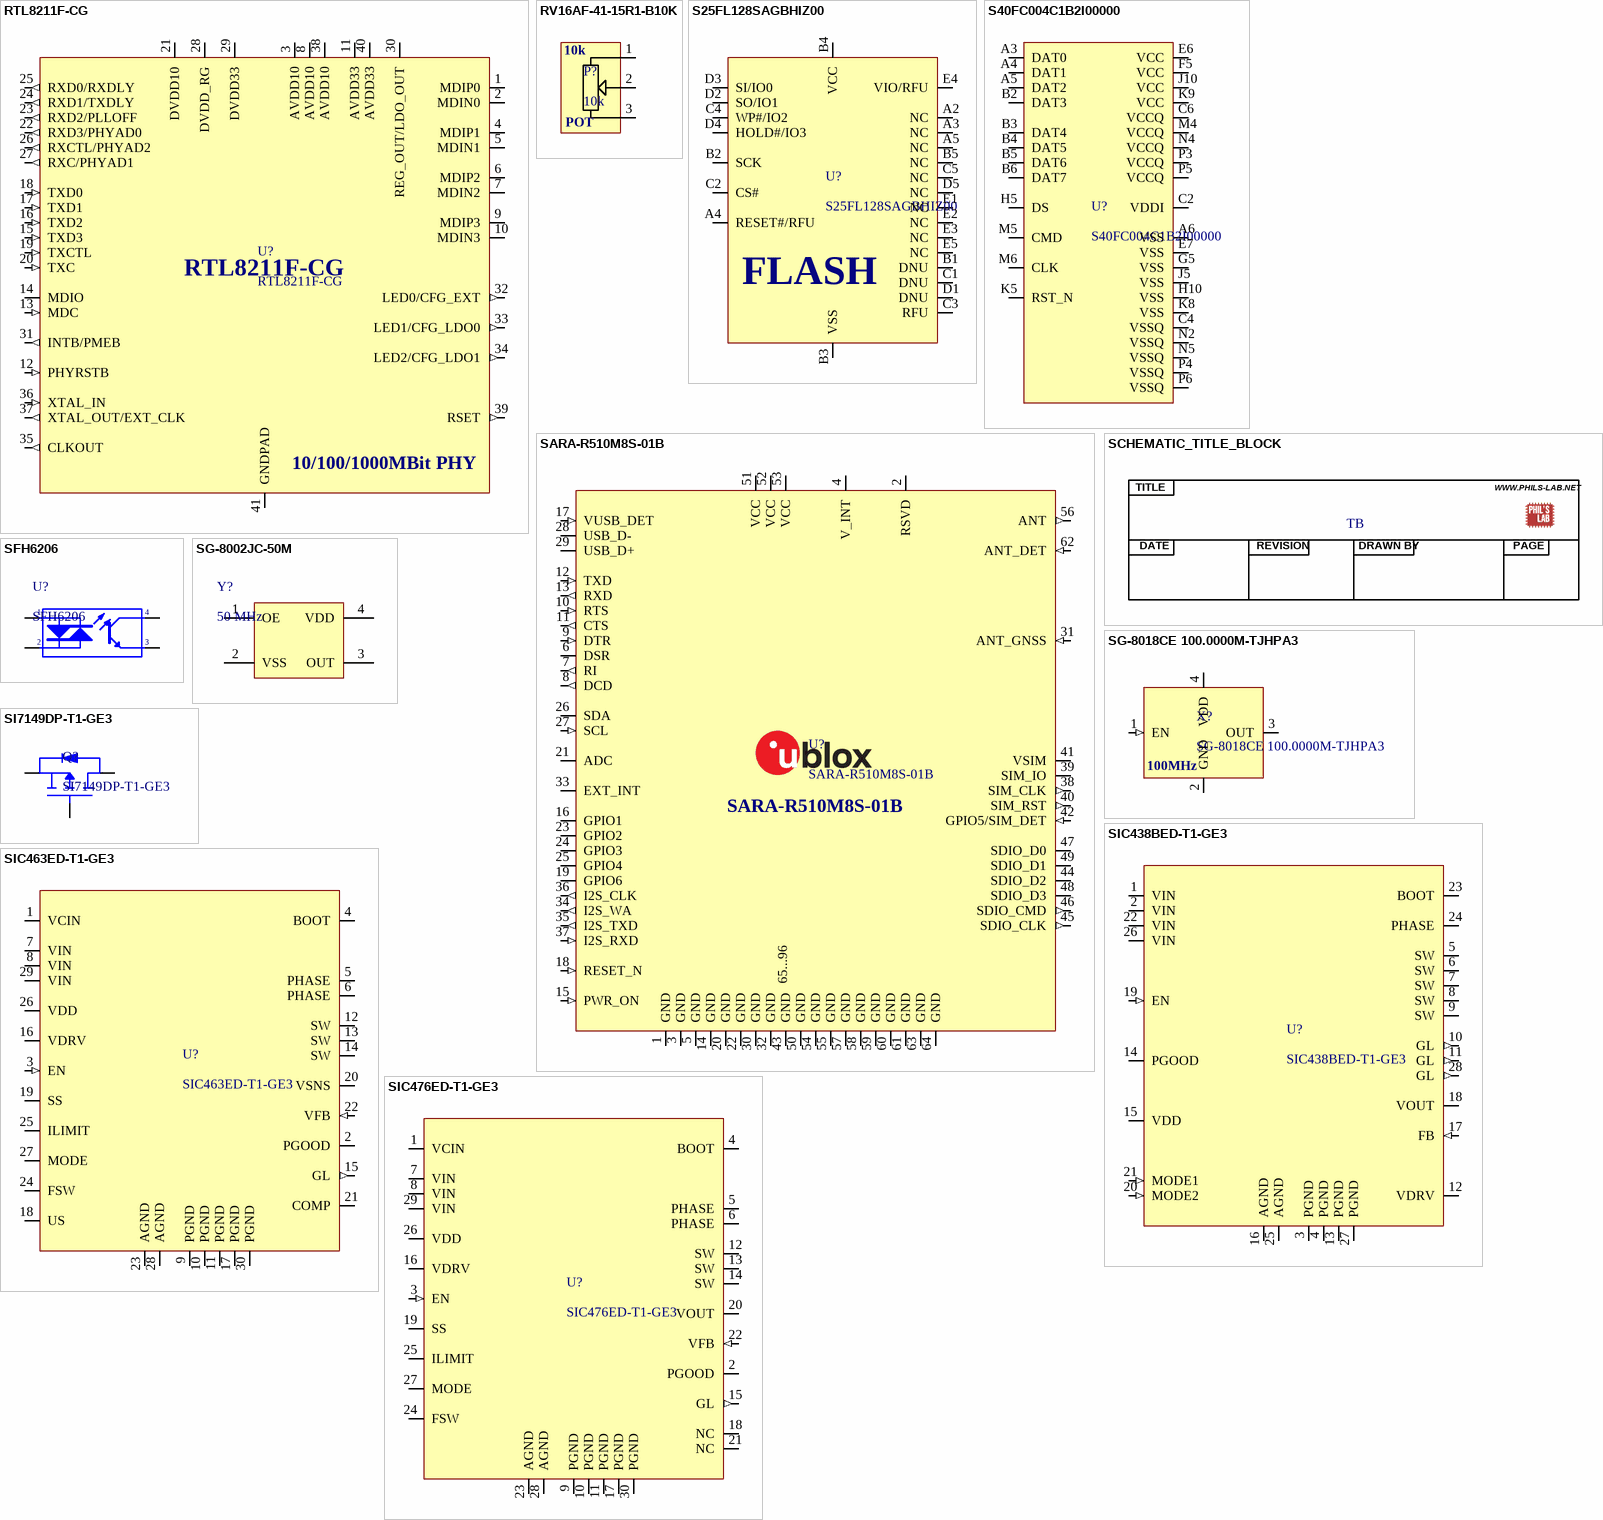
[diagram p26: symbols RTL8211F-CG to SIC476ED-T1-GE3]

## RTL8211F-CG
designator U?
INTEGRATED 10/100/1000M ETHERNET PRECISION TRANSCEIVER; Manufacturer: Realtek; Manufacturer Part Number: RTL8211F-CG
footprint QFN-40-0.4-EP (QFN 40 Pads 0.4mm Pitch Thermal Pad)
pins: 1 MDIP0 (io), 2 MDIN0 (io), 3 AVDD10 (power), 4 MDIP1 (io), 5 MDIN1 (io), 6 MDIP2 (io), 7 MDIN2 (io), 8 AVDD10 (power), 9 MDIP3 (io), 10 MDIN3 (io), 11 AVDD33 (power), 12 PHYRSTB (in), 13 MDC (in), 14 MDIO (io), 15 TXD3 (in), 16 TXD2 (in), 17 TXD1 (in), 18 TXD0 (in), 19 TXCTL (in), 20 TXC (in), 21 DVDD10 (power), 22 RXD3/PHYAD0 (out), 23 RXD2/PLLOFF (out), 24 RXD1/TXDLY (out), 25 RXD0/RXDLY (out), 26 RXCTL/PHYAD2 (out), 27 RXC/PHYAD1 (out), 28 DVDD_RG (power), 29 DVDD33 (power), 30 REG_OUT/LDO_OUT (power), 31 INTB/PMEB (out), 32 LED0/CFG_EXT (out), 33 LED1/CFG_LDO0 (out), 34 LED2/CFG_LDO1 (out), 35 CLKOUT (out), 36 XTAL_IN (in), 37 XTAL_OUT/EXT_CLK (out), 38 AVDD10 (power), 39 RSET (out), 40 AVDD33 (power), 41 GNDPAD (power)
text: 10/100/1000MBit PHY

## RV16AF-41-15R1-B10K
designator P?, comment 10k
Potentiometer Vertical 10k THT Chassis-Mount 16mm; Manufacturer: Alpha; Manufacturer Part Number: RV16AF-41-15R1-B10K
footprint RV16AF-41-15R1-B10K
pins: 1, 2, 3
text: POT

## S25FL128SAGBHIZ00
designator U?
NOR Flash 128Mb 133MHz QSPl; Manufacturer: Cypress Semiconductor; Manufacturer Part Number: S25FL128SAGBHIZ00
footprint BGA25C100P5X5_600X800X120 (BGA, 25-Leads, Body 6.00x8.00mmx1.20mm, Pitch 1.00mm)
pins: A2 NC, A3 NC, A4 RESET#/RFU, A5 NC, B1 DNU, B2 SCK, B3 VSS, B4 VCC, B5 NC, C1 DNU, C2 CS#, C3 RFU, C4 WP#/IO2, C5 NC, D1 DNU, D2 SO/IO1, D3 SI/IO0, D4 HOLD#/IO3, D5 NC, E1 NC, E2 NC, E3 NC, E4 VIO/RFU, E5 NC
text: FLASH

## S40FC004C1B2I00000
designator U?
eMMC MLC Memory 4GB 3V3; Manufacturer: SkyHigh Memory; Manufacturer Part Number: S40FC004C1B2I00000
footprint VFBGA153-9.0x7.5x0.8
pins: A3 DAT0, A4 DAT1, A5 DAT2, A6 VSS, B2 DAT3, B3 DAT4, B4 DAT5, B5 DAT6, B6 DAT7, C2 VDDI, C4 VSSQ, C6 VCCQ, E6 VCC, E7 VSS, F5 VCC, G5 VSS, H5 DS, H10 VSS, J5 VSS, J10 VCC, K5 RST_N, K8 VSS, K9 VCC, M4 VCCQ, M5 CMD, M6 CLK, N2 VSSQ, N4 VCCQ, N5 VSSQ, P3 VCCQ, P4 VSSQ, P5 VCCQ, P6 VSSQ

## SARA-R510M8S-01B
designator U?
Secure Cloud LTE-M and NB-IoT combo module with integrated u-blox M8 GNSS receiver for multi-regional use; Manufacturer: u-blox; Manufacturer Part Number: SARA-R510M8S-01B; Distributor Link: https://www.mouser.de/ProductDetail/u-blox/SARA-R510M8S-01B?qs=QNEnbhJQKvYa3sxdFdDP4w%3D%3D&gclid=CjwKCAiAwc-dBhA7EiwAxPRylKnSUPShzCKShE4YmhLtKIzyKR1Hn1Ejf9z6DrhP0wlU82vCiLopnxoC6RgQAvD_BwE
footprint SARA-XX (GSM/GPRS and GSM/EGPRS/HSPA Cellular Module)
pins: 1 GND (power), 2 RSVD, 3 GND (power), 4 V_INT (power), 5 GND (power), 6 DSR (io), 7 RI (out), 8 DCD (out), 9 DTR (in), 10 RTS (in), 11 CTS (out), 12 TXD (in), 13 RXD (out), 14 GND (power), 15 PWR_ON (in), 16 GPIO1 (io), 17 VUSB_DET (in), 18 RESET_N (in), 19 GPIO6, 20 GND (power), 21 ADC (power), 22 GND (power), 23 GPIO2 (io), 24 GPIO3 (io), 25 GPIO4 (io), 26 SDA (io), 27 SCL (in), 28 USB_D- (io), 29 USB_D+ (io), 30 GND (power), 31 ANT_GNSS (in), 32 GND (power), 33 EXT_INT, 34 I2S_WA (out), 35 I2S_TXD (out), 36 I2S_CLK (out), 37 I2S_RXD (in), 38 SIM_CLK (out), 39 SIM_IO (io), 40 SIM_RST (out), 41 VSIM (power), 42 GPIO5/SIM_DET (in), 43 GND (power), 44 SDIO_D2 (io), 45 SDIO_CLK (out), 46 SDIO_CMD (out), 47 SDIO_D0 (io), 48 SDIO_D3 (io), 49 SDIO_D1 (io), 50 GND (power), 51 VCC (power), 52 VCC (power), 53 VCC (power), 54 GND (power), 55 GND (power), 56 ANT (out), 57 GND (power), 58 GND (power), 59 GND (power), 60 GND (power), 61 GND (power), 62 ANT_DET (in), 63 GND (power), 64 GND (power), 65 GND (power), 66 GND (power), 67 GND (power), 68 GND (power), 69 GND (power), 70 GND (power), 71 GND (power), 72 GND (power), 73 GND (power), 74 GND (power), 75 GND (power), 76 GND (power), 77 GND (power), 78 GND (power), 79 GND (power), 80 GND (power), 81 GND (power), 82 GND (power), 83 GND (power), 84 GND (power), 85 GND (power), 86 GND (power), 87 GND (power), 88 GND (power), 89 GND (power), 90 GND (power), 91 GND (power), 92 GND (power), 93 GND (power), 94 GND (power), 95 GND (power), 96 GND (power)
text: 65...96

## SCHEMATIC_TITLE_BLOCK
designator TB  (value not drawn)  (graphical)
Default Schematic Title Block (Phil's Lab)
text: TITLE; WWW.PHILS-LAB.NET; DATE; REVISION; DRAWN BY; PAGE

## SFH6206
designator U?
pins: 1 A "Anode", 2 K "Cathode", 3 E "Emitter", 4 C "Collector"

## SG-8002JC-50M
designator Y?, comment 50 MHz
footprint OSC 50MHz
pins: 1 OE, 2 VSS, 3 OUT, 4 VDD

## SG-8018CE 100.0000M-TJHPA3
designator X?
Standard Clock Oscillators 100 MHz 1.8V-3.3V 15PF 50PPM 3.2mm x 2.5mm; Manufacturer: Epson; Manufacturer Part Number: SG-8018CE 100.0000M-TJHPA3
footprint XTAL_3225
pins: 1 EN (in), 2 GND (power), 3 OUT, 4 VDD (power)
text: 100MHz

## SI7149DP-T1-GE3
designator Q?
MOSFET P-Channel Vds=30V Id=50A Rds=5.2mR; Manufacturer: Vishay; Manufacturer Part Number: SI7149DP-T1-GE3
footprint PowerPAK-SO-8
pins: D, G, S

## SIC438BED-T1-GE3
designator U?
3 V to 28 V Input 8A microBUCK® DC/DC Converter; Manufacturer: Vishay; Manufacturer Part Number: SIC438BED-T1-GE3; Distributor Link: https://eu.mouser.com/ProductDetail/Vishay-Siliconix/SIC438BED-T1-GE3?qs=wd5RIQLrsJhAHAqoS3ITiQ%3D%3D; LCSC: C511430
footprint MLP44-24L
pins: 1 VIN (power), 2 VIN (power), 3 PGND (power), 4 PGND (power), 5 SW (power), 6 SW (power), 7 SW (power), 8 SW (power), 9 SW (power), 10 GL (out), 11 GL (out), 12 VDRV (power), 13 PGND (power), 14 PGOOD (oc), 15 VDD (power), 16 AGND (power), 17 FB (in), 18 VOUT (power), 19 EN (in), 20 MODE2 (in), 21 MODE1 (in), 22 VIN (power), 23 BOOT (power), 24 PHASE (power), 25 AGND (power), 26 VIN (power), 27 PGND (power), 28 GL (out)

## SIC463ED-T1-GE3
designator U?
4.5 V to 60 V Input, 4 A microBUCK® DC/DC Converter; Manufacturer: Vishay; Manufacturer Part Number: SIC463ED-T1-GE3
footprint MLP55-27L
pins: 1 VCIN (power), 2 PGOOD (oc), 3 EN (in), 4 BOOT (power), 5 PHASE (power), 6 PHASE (power), 7 VIN (power), 8 VIN (power), 9 PGND (power), 10 PGND (power), 11 PGND (power), 12 SW (power), 13 SW (power), 14 SW (power), 15 GL (out), 16 VDRV (power), 17 PGND (power), 18 US, 19 SS, 20 VSNS (power), 21 COMP, 22 VFB (in), 23 AGND (power), 24 FSW, 25 ILIMIT, 26 VDD (power), 27 MODE, 28 AGND (power), 29 VIN (power), 30 PGND (power)

## SIC476ED-T1-GE3
designator U?
4.5 V to 55 V Input, 3 A, 5 A, 8 A, 12 A microBUCK® DC/DC Converter; Manufacturer: Vishay; Manufacturer Part Number: SIC476ED-T1-GE3
footprint MLP55-27L
pins: 1 VCIN (power), 2 PGOOD (oc), 3 EN (in), 4 BOOT (power), 5 PHASE (power), 6 PHASE (power), 7 VIN (power), 8 VIN (power), 9 PGND (power), 10 PGND (power), 11 PGND (power), 12 SW (power), 13 SW (power), 14 SW (power), 15 GL (out), 16 VDRV (power), 17 PGND (power), 18 NC, 19 SS, 20 VOUT (power), 21 NC, 22 VFB (in), 23 AGND (power), 24 FSW, 25 ILIMIT, 26 VDD (power), 27 MODE, 28 AGND (power), 29 VIN (power), 30 PGND (power)

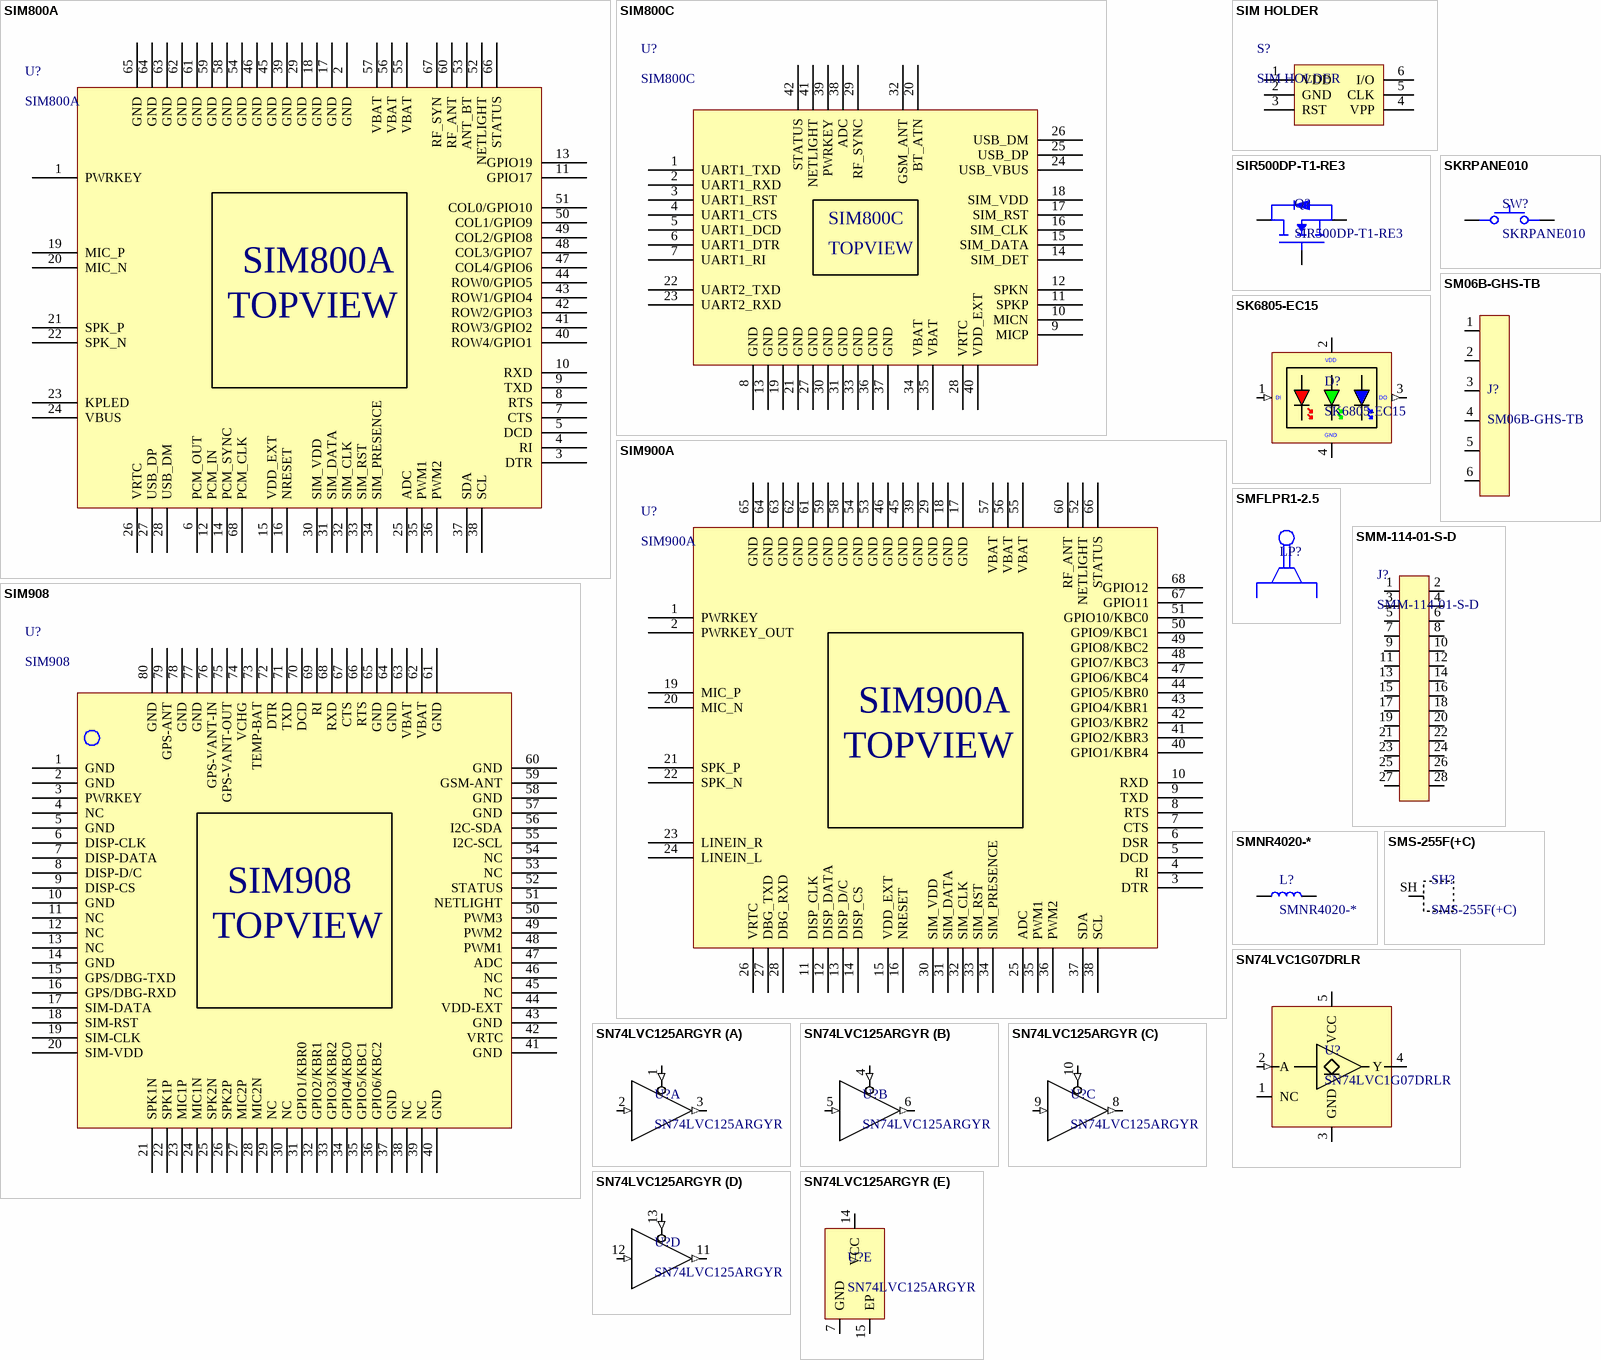
[diagram p27: symbols SIM800A to SN74LVC125ARGYR]

## SIM800A
designator U?
footprint SIM900A (LCC, 68-Pins, Body 24.00x24.00mmx2.15mm, Pitch 1.00mm, IPC Low Density)
pins: 1 PWRKEY, 2 GND, 3 DTR, 4 RI, 5 DCD, 6 PCM_OUT, 7 CTS, 8 RTS, 9 TXD, 10 RXD, 11 GPIO17, 12 PCM_IN, 13 GPIO19, 14 PCM_SYNC, 15 VDD_EXT, 16 NRESET, 17 GND, 18 GND, 19 MIC_P, 20 MIC_N, 21 SPK_P, 22 SPK_N, 23 KPLED, 24 VBUS, 25 ADC, 26 VRTC, 27 USB_DP, 28 USB_DM, 29 GND, 30 SIM_VDD, 31 SIM_DATA, 32 SIM_CLK, 33 SIM_RST, 34 SIM_PRESENCE, 35 PWM1, 36 PWM2, 37 SDA, 38 SCL, 39 GND, 40 ROW4/GPIO1, 41 ROW3/GPIO2, 42 ROW2/GPIO3, 43 ROW1/GPIO4, 44 ROW0/GPIO5, 45 GND, 46 GND, 47 COL4/GPIO6, 48 COL3/GPIO7, 49 COL2/GPIO8, 50 COL1/GPIO9, 51 COL0/GPIO10, 52 NETLIGHT, 53 ANT_BT, 54 GND, 55 VBAT, 56 VBAT, 57 VBAT, 58 GND, 59 GND, 60 RF_ANT, 61 GND, 62 GND, 63 GND, 64 GND, 65 GND, 66 STATUS, 67 RF_SYN, 68 PCM_CLK
text: TOPVIEW

## SIM800C
designator U?
footprint SIM800C
pins: 1 UART1_TXD, 2 UART1_RXD, 3 UART1_RST, 4 UART1_CTS, 5 UART1_DCD, 6 UART1_DTR, 7 UART1_RI, 8 GND, 9 MICP, 10 MICN, 11 SPKP, 12 SPKN, 13 GND, 14 SIM_DET, 15 SIM_DATA, 16 SIM_CLK, 17 SIM_RST, 18 SIM_VDD, 19 GND, 20 BT_ATN, 21 GND, 22 UART2_TXD, 23 UART2_RXD, 24 USB_VBUS, 25 USB_DP, 26 USB_DM, 27 GND, 28 VRTC, 29 RF_SYNC, 30 GND, 31 GND, 32 GSM_ANT, 33 GND, 34 VBAT, 35 VBAT, 36 GND, 37 GND, 38 ADC, 39 PWRKEY, 40 VDD_EXT, 41 NETLIGHT, 42 STATUS
text: TOPVIEW

## SIM900A
designator U?
footprint SIM900A (LCC, 68-Pins, Body 24.00x24.00mmx2.15mm, Pitch 1.00mm, IPC Low Density)
pins: 1 PWRKEY, 2 PWRKEY_OUT, 3 DTR, 4 RI, 5 DCD, 6 DSR, 7 CTS, 8 RTS, 9 TXD, 10 RXD, 11 DISP_CLK, 12 DISP_DATA, 13 DISP_D/C, 14 DISP_CS, 15 VDD_EXT, 16 NRESET, 17 GND, 18 GND, 19 MIC_P, 20 MIC_N, 21 SPK_P, 22 SPK_N, 23 LINEIN_R, 24 LINEIN_L, 25 ADC, 26 VRTC, 27 DBG_TXD, 28 DBG_RXD, 29 GND, 30 SIM_VDD, 31 SIM_DATA, 32 SIM_CLK, 33 SIM_RST, 34 SIM_PRESENCE, 35 PWM1, 36 PWM2, 37 SDA, 38 SCL, 39 GND, 40 GPIO1/KBR4, 41 GPIO2/KBR3, 42 GPIO3/KBR2, 43 GPIO4/KBR1, 44 GPIO5/KBR0, 45 GND, 46 GND, 47 GPIO6/KBC4, 48 GPIO7/KBC3, 49 GPIO8/KBC2, 50 GPIO9/KBC1, 51 GPIO10/KBC0, 52 NETLIGHT, 53 GND, 54 GND, 55 VBAT, 56 VBAT, 57 VBAT, 58 GND, 59 GND, 60 RF_ANT, 61 GND, 62 GND, 63 GND, 64 GND, 65 GND, 66 STATUS, 67 GPIO11, 68 GPIO12
text: TOPVIEW

## SIM908
designator U?
footprint SIM908 (LCC, 80-Pins, Body 30.0x30.0mm (max), Pitch 1.00mm, IPC Low Density)
pins: 1 GND, 2 GND, 3 PWRKEY, 4 NC, 5 GND, 6 DISP-CLK, 7 DISP-DATA, 8 DISP-D/C, 9 DISP-CS, 10 GND, 11 NC, 12 NC, 13 NC, 14 GND, 15 GPS/DBG-TXD, 16 GPS/DBG-RXD, 17 SIM-DATA, 18 SIM-RST, 19 SIM-CLK, 20 SIM-VDD, 21 SPK1N, 22 SPK1P, 23 MIC1P, 24 MIC1N, 25 SPK2N, 26 SPK2P, 27 MIC2P, 28 MIC2N, 29 NC, 30 NC, 31 GPIO1/KBR0, 32 GPIO2/KBR1, 33 GPIO3/KBR2, 34 GPIO4/KBC0, 35 GPIO5/KBC1, 36 GPIO6/KBC2, 37 GND, 38 NC, 39 NC, 40 GND, 41 GND, 42 VRTC, 43 GND, 44 VDD-EXT, 45 NC, 46 NC, 47 ADC, 48 PWM1, 49 PWM2, 50 PWM3, 51 NETLIGHT, 52 STATUS, 53 NC, 54 NC, 55 I2C-SCL, 56 I2C-SDA, 57 GND, 58 GND, 59 GSM-ANT, 60 GND, 61 GND, 62 VBAT, 63 VBAT, 64 GND, 65 GND, 66 RTS, 67 CTS, 68 RXD, 69 RI, 70 DCD, 71 TXD, 72 DTR, 73 TEMP-BAT, 74 VCHG, 75 GPS-VANT-OUT, 76 GPS-VANT-IN, 77 GND, 78 GND, 79 GPS-ANT, 80 GND
text: TOPVIEW

## SIM HOLDER
designator S?
footprint SIM SOCKET
pins: 1 VDD, 2 GND, 3 RST, 4 VPP, 5 CLK, 6 I/O

## SIR500DP-T1-RE3
designator Q?
MOSFET N-Channel Vds=30V Id=351A Rds=470uR; Manufacturer: Vishay; Manufacturer Part Number: SIR500DP-T1-RE3
footprint PowerPAK-SO-8
pins: D, G, S

## SK6805-EC15
designator D?
RGB LED SMD Addressable; Manufacturer: OPSCO; Manufacturer Part Number: SK6805-EC15; Datasheet: https://www.ledlightinghut.com/files/SK6805-EC15-REV-05-EN.pdf; Distributor Link: https://eu.mouser.com/ProductDetail/Adafruit/4492?qs=CUBnOrq4ZJz3oeplDXDOWA%3D%3D
footprint SK6805-EC15
pins: 1 DIN (in), 2 VDD (power), 3 DOUT (out), 4 GND (power)
text: DI; DO

## SKRPANE010
designator SW?
Tactile Switch SMD SPST; Manufacturer: Alps Alpine; Manufacturer Part Number: SKRPANE010
footprint SKRPANE010
pins: 12, 34

## SM06B-GHS-TB
designator J?
Header Connector 6 Position 1.25MM Pitch SMD Horizontal JST GH; Manufacturer: JST; Manufacturer Part Number: SM06B-GHS-TB
footprint Model Name (Footprint not found)
footprint SM06B-GHS-TB
pins: 1, 2, 3, 4, 5, 6

## SMFLPR1-2.5
designator LP?  (value not drawn)  (mechanical)
LED Light-Pipe Rectangular Lense 2.5in Length 1mm Core; Manufacturer: BIVAR; Manufacturer Part Number: SMFLPR1-2.5; Distributor Link: https://www.mouser.de/ProductDetail/Bivar/SMFLPR1-2.5?qs=jaLxTFIJCisDD%2F7xsHCz4Q%3D%3D
footprint SMFLPR1-2.5

## SMM-114-01-S-D
designator J?
Low Profile Socket Strip 2.00 mm Pitch THT; Manufacturer: Samtec; Manufacturer Part Number: SMM-114-01-S-D
footprint SMM-114-01-S-D
pins: 1, 2, 3, 4, 5, 6, 7, 8, 9, 10, 11, 12, 13, 14, 15, 16, 17, 18, 19, 20, 21, 22, 23, 24, 25, 26, 27, 28

## SMNR4020-*
designator L?
Inductor SXN SMNR4020 Series 4x4x2mm; Manufacturer: SXN; Manufacturer Part Number: SMNR4020-*; Distributor Link: *; LCSC: *
footprint SMNR4020 (Inductor SMNR4020)
pins: 1, 2

## SMS-255F(+C)
designator SH?
RF Shield 19.05mm x 19.05mm x 5.08mm / SMS-255F = Frame / SMS-255C = Cover; Manufacturer: LeaderTech; Manufacturer Part Number: SMS-255F
footprint SMS-255F
pins: SH

## SN74LVC1G07DRLR
designator U?
Single Buffer/Driver With Open-Drain Output; Manufacturer: Texas Instruments; Manufacturer Part Number: SN74LVC1G07DRLR; Distributor Link: https://www.mouser.de/ProductDetail/Texas-Instruments/SN74LVC1G07DRLR?qs=pajgIaoyDUjwau6f5T7MtQ%3D%3D; LCSC: C183013
footprint SOT-5 (SOT, 5-Leads, Body 1.60x1.60mm, Pitch 0.50mm, IPC Medium Density)
pins: 1 NC, 2 A (in), 3 GND (power), 4 Y (oc), 5 VCC (power)

## SN74LVC125ARGYR
designator U?
Quadruple Bus Buffer Gate With 3-State Outputs; Manufacturer: Texas Instruments; Manufacturer Part Number: SN74LVC125ARGYR; Distributor Link: https://www.mouser.de/ProductDetail/Texas-Instruments/SN74LVC125ARGYR?qs=d9gICRQKuCcvN%252BAdiEuZ%252BA%3D%3D; LCSC: https://www.lcsc.com/product-detail/Buffer-Driver-Transceiver_Texas-Instruments-SN74LVC125ARGYR_C2652108.html
footprint VQFN-14 (QFN, 14-Leads, Body 3.50x3.50mm, Pitch 0.50mm, Thermal Pad 2.00x2.00mm, IPC Medium Density)
part A pins: 1 1~{OE} (in), 2 1A (in), 3 1Y (out)
part B pins: 4 2~{OE} (in), 5 2A (in), 6 2Y (out)
part C pins: 8 3Y (out), 9 3A (in), 10 3~{OE} (in)
part D pins: 11 4Y (out), 12 4A (in), 13 4~{OE} (in)
part E pins: 7 GND (power), 14 VCC (power), 15 EP (power)

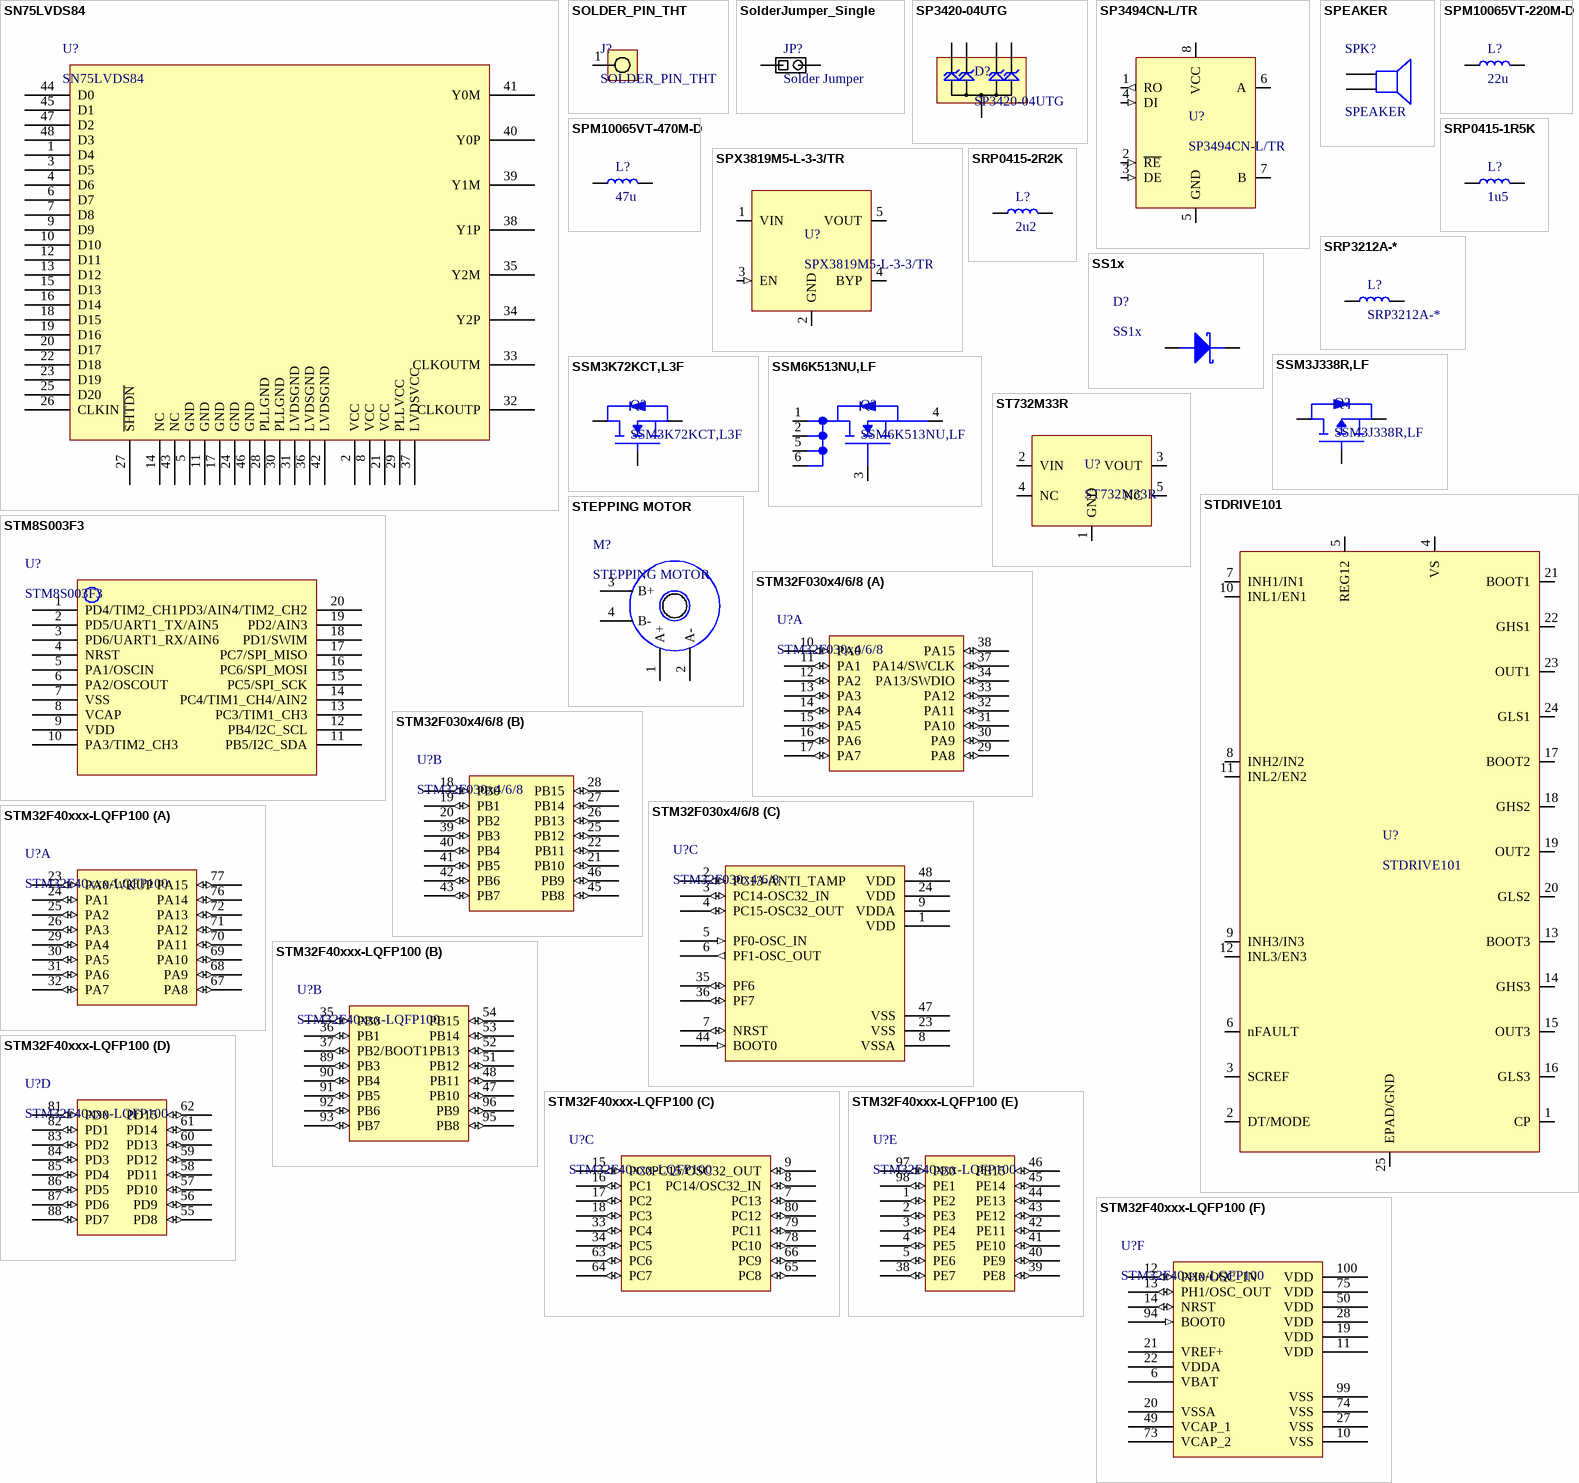
[diagram p28: symbols SN75LVDS84 to STM32F40xxx-LQFP100]

## SN75LVDS84
designator U?
footprint TSSOP 48 PIN
pins: 1 D4, 2 VCC, 3 D5, 4 D6, 5 GND, 6 D7, 7 D8, 8 VCC, 9 D9, 10 D10, 11 GND, 12 D11, 13 D12, 14 NC, 15 D13, 16 D14, 17 GND, 18 D15, 19 D16, 20 D17, 21 VCC, 22 D18, 23 D19, 24 GND, 25 D20, 26 CLKIN, 27 ~{SHTDN}, 28 PLLGND, 29 PLLVCC, 30 PLLGND, 31 LVDSGND, 32 CLKOUTP, 33 CLKOUTM, 34 Y2P, 35 Y2M, 36 LVDSGND, 37 LVDSVCC, 38 Y1P, 39 Y1M, 40 Y0P, 41 Y0M, 42 LVDSGND, 43 NC, 44 D0, 45 D1, 46 GND, 47 D2, 48 D3

## SOLDER_PIN_THT
designator J?
Solder Pin 1.5mm Through-Hole
footprint SOLDER_PIN_THT_1_5
pins: 1

## SolderJumper_Single
designator JP?, comment Solder Jumper
Solder Jumper Single 0.5mm Pitch
footprint SolderJumper_Single
pins: 1, 2

## SP3420-04UTG
designator D?
TVS Diode Array Low Capacitance ESD Protection 4-Channel (Vwork=3V3, Vclamp=6V); Manufacturer: Littelfuse; Manufacturer Part Number: SP3420-04UTG
footprint uDFN-10
pins: 29, 38 GND, 47, 56, 110

## SP3494CN-L/TR
designator U?
3.3V Low Power RS-485 / RS-422 Transceiver SOIC-8; Manufacturer: MaxLinear; Manufacturer Part Number: SP3494CN-L/TR
footprint SOIC-8 (SOIC, 8-Leads, Body 4.91x3.90mm, Pitch 1.27mm, IPC Medium Density)
pins: 1 RO (out), 2 ~{RE} (in), 3 DE (in), 4 DI (in), 5 GND (power), 6 A (io), 7 B (io), 8 VCC (power)

## SPEAKER
designator SPK?
Published: 24-Mar-1999; LatestRevisionDate: 17-Jul-2002; LatestRevisionNote: Re-released for DXP Platform.; PackageReference: PIN2; Publisher: Altium Limited
pins: 1, 2

## SPM10065VT-220M-D
designator L?, comment 22u
Inductor SMD 22uH 5.4A 20%; Manufacturer: TDK; Manufacturer Part Number: SPM10065VT-220M-D
footprint SPM10065VT-220M-D
pins: 1, 2

## SPM10065VT-470M-D
designator L?, comment 47u
Inductor SMD 47uH 4A 20%; Manufacturer: TDK; Manufacturer Part Number: SPM10065VT-470M-D
footprint SPM10065VT-220M-D
pins: 1, 2

## SPX3819M5-L-3-3/TR
designator U?
500mA +3.3V Low-Noise LDO Voltage Regulator; Manufacturer: MaxLinear; Manufacturer Part Number: SPX3819M5-L-3-3/TR
footprint SOT-23-5 (SOT23, 5-Leads, Body 2,90x2,80mm, Pitch 0,95mm, IPC Medium Density)
pins: 1 VIN (power), 2 GND (power), 3 EN (in), 4 BYP, 5 VOUT (power)

## SRP0415-1R5K
designator L?, comment 1u5
Inductor SMD 1.5uH Bourns SRP0415-1R5K; Manufacturer: Bourns; Manufacturer Part Number: SRP0415-1R5K
footprint SRP0415
pins: 1, 2

## SRP0415-2R2K
designator L?, comment 2u2
Inductor SMD 2.2uH Bourns SRP0415-2R2K; Manufacturer: Bourns; Manufacturer Part Number: SRP0415-2R2K
footprint SRP0415
pins: 1, 2

## SRP3212A-*
designator L?
Shielded Power Inductor SMD SRP3212A; Manufacturer: Bourns; Manufacturer Part Number: SRP3212A-*; Distributor Link: *
footprint SRP3212A
pins: 1, 2

## SS1x
designator D?
pins: 1 A, 2 K

## SSM3J338R,LF
designator Q?
MOSFET P-Channel Vds=12V Id=6A; Manufacturer Part Number: Toshiba; Manufacturer: SSM3J338R,LF
footprint SSM3J338R,LF-SOT23-F
pins: D, G, S

## SSM3K72KCT,L3F
designator Q?
MOSFET N-Channel Vds=60V Id=400mA Rds(on)=1.05R with ESD Protection; Manufacturer: Toshiba; Manufacturer Part Number: SSM3K72KCT,L3F; Distributor Link: https://www.mouser.de/ProductDetail/Toshiba/SSM3K72KCTL3F?qs=PDgMCp4xDJZBSQ%2Fqg29QOw%3D%3D
footprint CST3-SOT-883
pins: D, G, S

## SSM6K513NU,LF
designator Q?
MOSFET N-Channel Vds=30V Vgs=20V Id=15A; Manufacturer: Toshiba; Manufacturer Part Number: SSM6K513NU,LF; Distributor Link: https://www.mouser.de/ProductDetail/Toshiba/SSM6K513NULF?qs=zPgndZZmKGbOGaIT7oO3Dw%3D%3D; LCSC: C3008601
footprint SOT-1220
pins: 1 D, 2 D, 3 G, 4 S, 5 D, 6 D

## ST732M33R
designator U?
300 mA, 28 V LDO low-dropout voltage regulator, with 5 µA quiescent current; Manufacturer: STMicroelectronics; Manufacturer Part Number: ST732M33R
footprint SOT-23-5 (SOT23, 5-Leads, Body 2,90x2,80mm, Pitch 0,95mm, IPC Medium Density)
pins: 1 GND (power), 2 VIN (power), 3 VOUT (power), 4 NC, 5 NC

## STDRIVE101
designator U?
Gate Driver 3x Half-Bridge; Manufacturer: STMicroelectronics; Manufacturer Part Number: STDRIVE101
footprint VFQFPN24_4X4X1 (QFN, 24-Leads, Body 4,00x4,00mm, Pitch 0,50mm, Thermal Pad 2,50x2,50mm, IPC Medium Density)
pins: 1 CP, 2 DT/MODE, 3 SCREF, 4 VS, 5 REG12, 6 nFAULT, 7 INH1/IN1, 8 INH2/IN2, 9 INH3/IN3, 10 INL1/EN1, 11 INL2/EN2, 12 INL3/EN3, 13 BOOT3, 14 GHS3, 15 OUT3, 16 GLS3, 17 BOOT2, 18 GHS2, 19 OUT2, 20 GLS2, 21 BOOT1, 22 GHS1, 23 OUT1, 24 GLS1, 25 EPAD/GND

## STEPPING MOTOR
designator M?
pins: 1 A+, 2 A-, 3 B+, 4 B-

## STM8S003F3
designator U?
Published: 30-May-2008; DatasheetVersion: rev6, Mar-2008; PackageVersion: Mar-2008; PackageReference: LQFP48; Publisher: Altium Limited; PackageDescription: 48-Pin Low-Profile Quad Flat Pack, 7 x 7 mm Body, 0.5 mm Pitch (LQFP48); ComponentLink1Description: Manufacturer Link; ComponentLink1URL: www.st.com/stm32; ComponentLink2Description: Datasheet; ComponentLink2URL: http://www.st.com/stonline/products/literature/ds/13586.pdf
footprint TSSOP 20PIN (TSOP, 20-Leads, Body 6.6x4.5mm (max), Pitch 0.65mm, IPC High Density)
pins: 1 PD4/TIM2_CH1, 2 PD5/UART1_TX/AIN5, 3 PD6/UART1_RX/AIN6, 4 NRST, 5 PA1/OSCIN, 6 PA2/OSCOUT, 7 VSS, 8 VCAP, 9 VDD, 10 PA3/TIM2_CH3, 11 PB5/I2C_SDA, 12 PB4/I2C_SCL, 13 PC3/TIM1_CH3, 14 PC4/TIM1_CH4/AIN2, 15 PC5/SPI_SCK, 16 PC6/SPI_MOSI, 17 PC7/SPI_MISO, 18 PD1/SWIM, 19 PD2/AIN3, 20 PD3/AIN4/TIM2_CH2

## STM32F030x4/6/8
designator U?
Published: 30-May-2008; DatasheetVersion: rev6, Mar-2008; PackageVersion: Mar-2008; PackageReference: LQFP48; Publisher: Altium Limited; PackageDescription: 48-Pin Low-Profile Quad Flat Pack, 7 x 7 mm Body, 0.5 mm Pitch (LQFP48); ComponentLink1Description: Manufacturer Link; ComponentLink1URL: www.st.com/stm32; ComponentLink2Description: Datasheet; ComponentLink2URL: http://www.st.com/stonline/products/literature/ds/13586.pdf
footprint LQFP 48 PIN (TSQFP, 48-Leads, Body 9.2x9.2mm (max), Pitch 0.50mm, IPC Medium Density)
part A pins: 10 PA0 (io), 11 PA1 (io), 12 PA2 (io), 13 PA3 (io), 14 PA4 (io), 15 PA5 (io), 16 PA6 (io), 17 PA7 (io), 29 PA8 (io), 30 PA9 (io), 31 PA10 (io), 32 PA11 (io), 33 PA12 (io), 34 PA13/SWDIO (io), 37 PA14/SWCLK (io), 38 PA15 (io)
part B pins: 18 PB0 (io), 19 PB1 (io), 20 PB2 (io), 21 PB10 (io), 22 PB11 (io), 25 PB12 (io), 26 PB13 (io), 27 PB14 (io), 28 PB15 (io), 39 PB3 (io), 40 PB4 (io), 41 PB5 (io), 42 PB6 (io), 43 PB7 (io), 45 PB8 (io), 46 PB9 (io)
part C pins: 1 VDD (power), 2 PC13-ANTI_TAMP (io), 3 PC14-OSC32_IN (io), 4 PC15-OSC32_OUT (io), 5 PF0-OSC_IN (in), 6 PF1-OSC_OUT (out), 7 NRST (io), 8 VSSA (power), 9 VDDA (power), 23 VSS (power), 24 VDD (power), 35 PF6 (io), 36 PF7 (io), 44 BOOT0 (in), 47 VSS (power), 48 VDD (power)

## STM32F40xxx-LQFP100
designator U?
footprint LQFP 100PIN (TSQFP, 100-Leads, Body 16.2x16.2mm (max), Pitch 0.50mm, IPC Low Density)
part A pins: 23 PA0/WKUP (io), 24 PA1 (io), 25 PA2 (io), 26 PA3 (io), 29 PA4 (io), 30 PA5 (io), 31 PA6 (io), 32 PA7 (io), 67 PA8 (io), 68 PA9 (io), 69 PA10 (io), 70 PA11 (io), 71 PA12 (io), 72 PA13 (io), 76 PA14 (io), 77 PA15 (io)
part B pins: 35 PB0 (io), 36 PB1 (io), 37 PB2/BOOT1 (io), 47 PB10 (io), 48 PB11 (io), 51 PB12 (io), 52 PB13 (io), 53 PB14 (io), 54 PB15 (io), 89 PB3 (io), 90 PB4 (io), 91 PB5 (io), 92 PB6 (io), 93 PB7 (io), 95 PB8 (io), 96 PB9 (io)
part C pins: 7 PC13 (io), 8 PC14/OSC32_IN (io), 9 PC15/OSC32_OUT (io), 15 PC0 (io), 16 PC1 (io), 17 PC2 (io), 18 PC3 (io), 33 PC4 (io), 34 PC5 (io), 63 PC6 (io), 64 PC7 (io), 65 PC8 (io), 66 PC9 (io), 78 PC10 (io), 79 PC11 (io), 80 PC12 (io)
part D pins: 55 PD8 (io), 56 PD9 (io), 57 PD10 (io), 58 PD11 (io), 59 PD12 (io), 60 PD13 (io), 61 PD14 (io), 62 PD15 (io), 81 PD0 (io), 82 PD1 (io), 83 PD2 (io), 84 PD3 (io), 85 PD4 (io), 86 PD5 (io), 87 PD6 (io), 88 PD7 (io)
part E pins: 1 PE2 (io), 2 PE3 (io), 3 PE4 (io), 4 PE5 (io), 5 PE6 (io), 38 PE7 (io), 39 PE8 (io), 40 PE9 (io), 41 PE10 (io), 42 PE11 (io), 43 PE12 (io), 44 PE13 (io), 45 PE14 (io), 46 PE15 (io), 97 PE0 (io), 98 PE1 (io)
part F pins: 6 VBAT (power), 10 VSS (power), 11 VDD (power), 12 PH0/OSC_IN (io), 13 PH1/OSC_OUT (io), 14 NRST (io), 19 VDD (power), 20 VSSA (power), 21 VREF+ (power), 22 VDDA (power), 27 VSS (power), 28 VDD (power), 49 VCAP_1 (power), 50 VDD (power), 73 VCAP_2 (power), 74 VSS (power), 75 VDD (power), 94 BOOT0 (in), 99 VSS (power), 100 VDD (power)

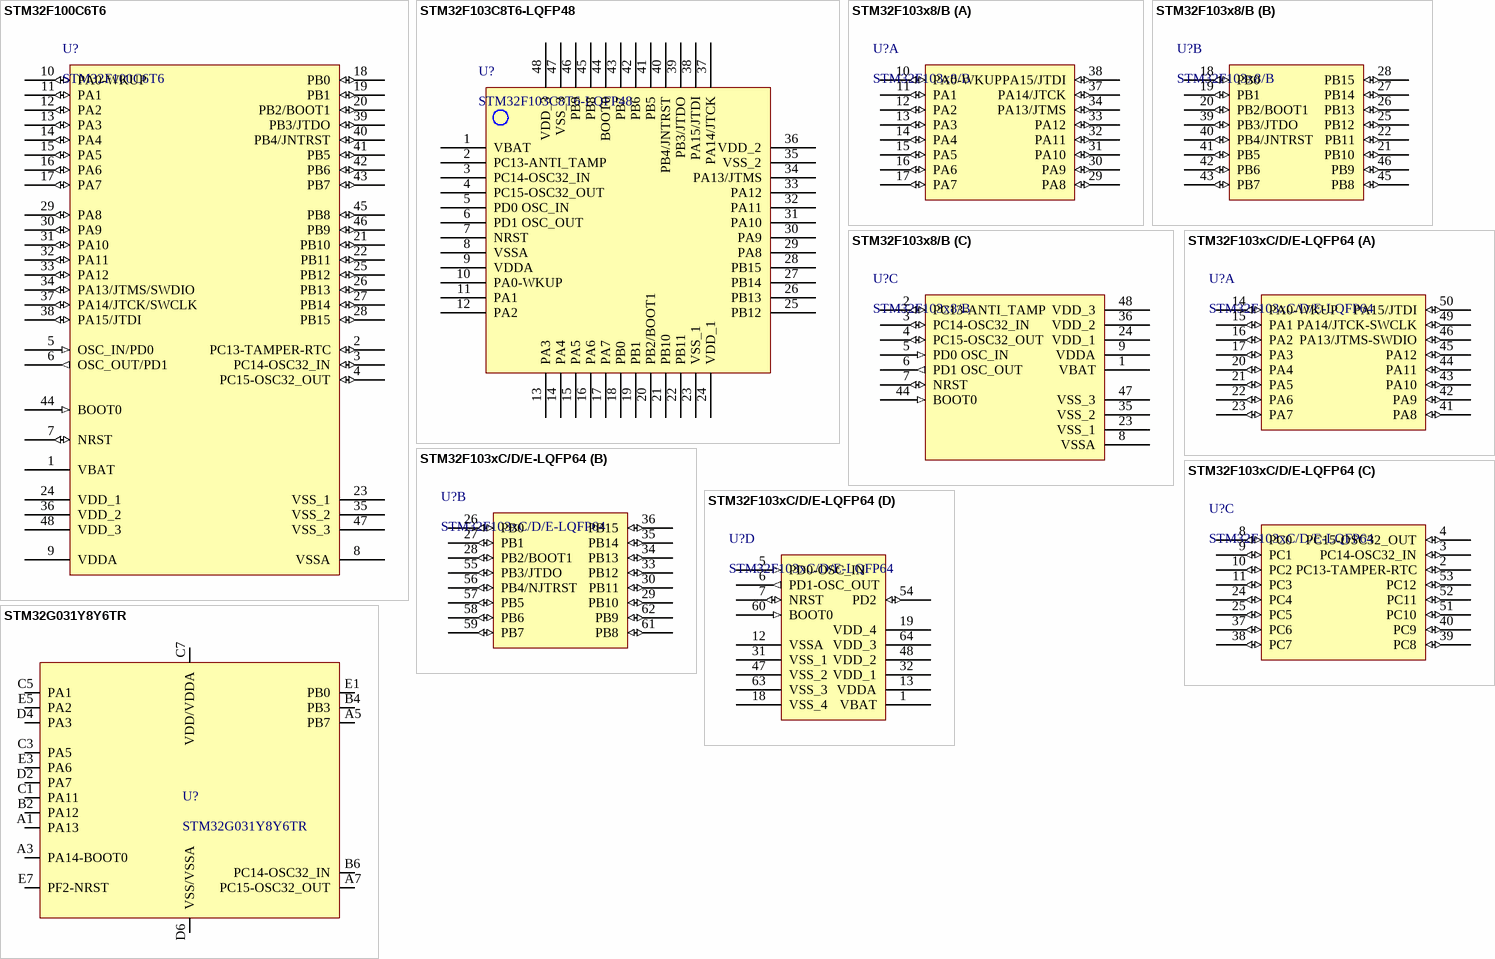
[diagram p29: symbols STM32F100C6T6 to STM32G031Y8Y6TR]

## STM32F100C6T6
designator U?
Published: 30-May-2008; DatasheetVersion: rev6, Mar-2008; PackageVersion: Mar-2008; PackageReference: LQFP48; Publisher: Altium Limited; PackageDescription: 48-Pin Low-Profile Quad Flat Pack, 7 x 7 mm Body, 0.5 mm Pitch (LQFP48); ComponentLink1Description: Manufacturer Link; ComponentLink1URL: www.st.com/stm32; ComponentLink2Description: Datasheet; ComponentLink2URL: http://www.st.com/stonline/products/literature/ds/13586.pdf
footprint LQFP 48 PIN (TSQFP, 48-Leads, Body 9.2x9.2mm (max), Pitch 0.50mm, IPC Medium Density)
pins: 1 VBAT (power), 2 PC13-TAMPER-RTC (io), 3 PC14-OSC32_IN (io), 4 PC15-OSC32_OUT (io), 5 OSC_IN/PD0 (in), 6 OSC_OUT/PD1 (out), 7 NRST (io), 8 VSSA (power), 9 VDDA (power), 10 PA0-WKUP (io), 11 PA1 (io), 12 PA2 (io), 13 PA3 (io), 14 PA4 (io), 15 PA5 (io), 16 PA6 (io), 17 PA7 (io), 18 PB0 (io), 19 PB1 (io), 20 PB2/BOOT1 (io), 21 PB10 (io), 22 PB11 (io), 23 VSS_1 (power), 24 VDD_1 (power), 25 PB12 (io), 26 PB13 (io), 27 PB14 (io), 28 PB15 (io), 29 PA8 (io), 30 PA9 (io), 31 PA10 (io), 32 PA11 (io), 33 PA12 (io), 34 PA13/JTMS/SWDIO (io), 35 VSS_2 (power), 36 VDD_2 (power), 37 PA14/JTCK/SWCLK (io), 38 PA15/JTDI (io), 39 PB3/JTDO (io), 40 PB4/JNTRST (io), 41 PB5 (io), 42 PB6 (io), 43 PB7 (io), 44 BOOT0 (in), 45 PB8 (io), 46 PB9 (io), 47 VSS_3 (power), 48 VDD_3 (power)

## STM32F103C8T6-LQFP48
designator U?
Published: 30-May-2008; DatasheetVersion: rev6, Mar-2008; PackageVersion: Mar-2008; PackageReference: LQFP48; Publisher: Altium Limited; PackageDescription: 48-Pin Low-Profile Quad Flat Pack, 7 x 7 mm Body, 0.5 mm Pitch (LQFP48); ComponentLink1Description: Manufacturer Link; ComponentLink1URL: www.st.com/stm32; ComponentLink2Description: Datasheet; ComponentLink2URL: http://www.st.com/stonline/products/literature/ds/13586.pdf
footprint LQFP 48 PIN (TSQFP, 48-Leads, Body 9.2x9.2mm (max), Pitch 0.50mm, IPC Medium Density)
pins: 1 VBAT, 2 PC13-ANTI_TAMP, 3 PC14-OSC32_IN, 4 PC15-OSC32_OUT, 5 PD0 OSC_IN, 6 PD1 OSC_OUT, 7 NRST, 8 VSSA, 9 VDDA, 10 PA0-WKUP, 11 PA1, 12 PA2, 13 PA3, 14 PA4, 15 PA5, 16 PA6, 17 PA7, 18 PB0, 19 PB1, 20 PB2/BOOT1, 21 PB10, 22 PB11, 23 VSS_1, 24 VDD_1, 25 PB12, 26 PB13, 27 PB14, 28 PB15, 29 PA8, 30 PA9, 31 PA10, 32 PA11, 33 PA12, 34 PA13/JTMS, 35 VSS_2, 36 VDD_2, 37 PA14/JTCK, 38 PA15/JTDI, 39 PB3/JTDO, 40 PB4/JNTRST, 41 PB5, 42 PB6, 43 PB7, 44 BOOT0, 45 PB8, 46 PB9, 47 VSS_3, 48 VDD_3

## STM32F103x8/B
designator U?
Published: 30-May-2008; DatasheetVersion: rev6, Mar-2008; PackageVersion: Mar-2008; PackageReference: LQFP48; Publisher: Altium Limited; PackageDescription: 48-Pin Low-Profile Quad Flat Pack, 7 x 7 mm Body, 0.5 mm Pitch (LQFP48); ComponentLink1Description: Manufacturer Link; ComponentLink1URL: www.st.com/stm32; ComponentLink2Description: Datasheet; ComponentLink2URL: http://www.st.com/stonline/products/literature/ds/13586.pdf
footprint LQFP 48 PIN (TSQFP, 48-Leads, Body 9.2x9.2mm (max), Pitch 0.50mm, IPC Medium Density)
part A pins: 10 PA0-WKUP (io), 11 PA1 (io), 12 PA2 (io), 13 PA3 (io), 14 PA4 (io), 15 PA5 (io), 16 PA6 (io), 17 PA7 (io), 29 PA8 (io), 30 PA9 (io), 31 PA10 (io), 32 PA11 (io), 33 PA12 (io), 34 PA13/JTMS (io), 37 PA14/JTCK (io), 38 PA15/JTDI (io)
part B pins: 18 PB0 (io), 19 PB1 (io), 20 PB2/BOOT1 (io), 21 PB10 (io), 22 PB11 (io), 25 PB12 (io), 26 PB13 (io), 27 PB14 (io), 28 PB15 (io), 39 PB3/JTDO (io), 40 PB4/JNTRST (io), 41 PB5 (io), 42 PB6 (io), 43 PB7 (io), 45 PB8 (io), 46 PB9 (io)
part C pins: 1 VBAT (power), 2 PC13-ANTI_TAMP (io), 3 PC14-OSC32_IN (io), 4 PC15-OSC32_OUT (io), 5 PD0 OSC_IN (in), 6 PD1 OSC_OUT (out), 7 NRST (io), 8 VSSA (power), 9 VDDA (power), 23 VSS_1 (power), 24 VDD_1 (power), 35 VSS_2 (power), 36 VDD_2 (power), 44 BOOT0 (in), 47 VSS_3 (power), 48 VDD_3 (power)

## STM32F103xC/D/E-LQFP64
designator U?
Published: 30-May-2008; DatasheetVersion: rev6, Mar-2008; PackageVersion: Mar-2008; Publisher: Altium Limited; ComponentLink1Description: Manufacturer Link; ComponentLink1URL: www.st.com/stm32; ComponentLink2Description: Datasheet; ComponentLink2URL: http://www.st.com/stonline/products/literature/ds/13586.pdf
footprint LQFP 64 PIN (TSQFP, 64-Leads, Body 12.0x12.0mm (max), Pitch 0.50mm, IPC Medium Density)
part A pins: 14 PA0-WKUP (io), 15 PA1 (io), 16 PA2 (io), 17 PA3 (io), 20 PA4 (io), 21 PA5 (io), 22 PA6 (io), 23 PA7 (io), 41 PA8 (io), 42 PA9 (io), 43 PA10 (io), 44 PA11 (io), 45 PA12 (io), 46 PA13/JTMS-SWDIO (io), 49 PA14/JTCK-SWCLK (io), 50 PA15/JTDI (io)
part B pins: 26 PB0 (io), 27 PB1 (io), 28 PB2/BOOT1 (io), 29 PB10 (io), 30 PB11 (io), 33 PB12 (io), 34 PB13 (io), 35 PB14 (io), 36 PB15 (io), 55 PB3/JTDO (io), 56 PB4/NJTRST (io), 57 PB5 (io), 58 PB6 (io), 59 PB7 (io), 61 PB8 (io), 62 PB9 (io)
part C pins: 2 PC13-TAMPER-RTC (io), 3 PC14-OSC32_IN (io), 4 PC15-OSC32_OUT (io), 8 PC0 (io), 9 PC1 (io), 10 PC2 (io), 11 PC3 (io), 24 PC4 (io), 25 PC5 (io), 37 PC6 (io), 38 PC7 (io), 39 PC8 (io), 40 PC9 (io), 51 PC10 (io), 52 PC11 (io), 53 PC12 (io)
part D pins: 1 VBAT (power), 5 PD0-OSC_IN (in), 6 PD1-OSC_OUT (out), 7 NRST (io), 12 VSSA (power), 13 VDDA (power), 18 VSS_4 (power), 19 VDD_4 (power), 31 VSS_1 (power), 32 VDD_1 (power), 47 VSS_2 (power), 48 VDD_2 (power), 54 PD2 (io), 60 BOOT0 (in), 63 VSS_3 (power), 64 VDD_3 (power)

## STM32G031Y8Y6TR
designator U?
ARM Microcontrollers - MCU Mainstream Arm Cortex-M0+ MCU 64 Kbytes of Flash 8 Kbytes RAM, 64 MHz CPU STM32; Manufacturer: STMicroelectronics; Manufacturer Part Number: STM32G031Y8Y6TR
footprint WLCSP18
pins: A1 PA13, A3 PA14-BOOT0, A5 PB7, A7 PC15-OSC32_OUT, B2 PA12, B4 PB3, B6 PC14-OSC32_IN, C1 PA11, C3 PA5, C5 PA1, C7 VDD/VDDA (power), D2 PA7, D4 PA3, D6 VSS/VSSA (power), E1 PB0, E3 PA6, E5 PA2, E7 PF2-NRST

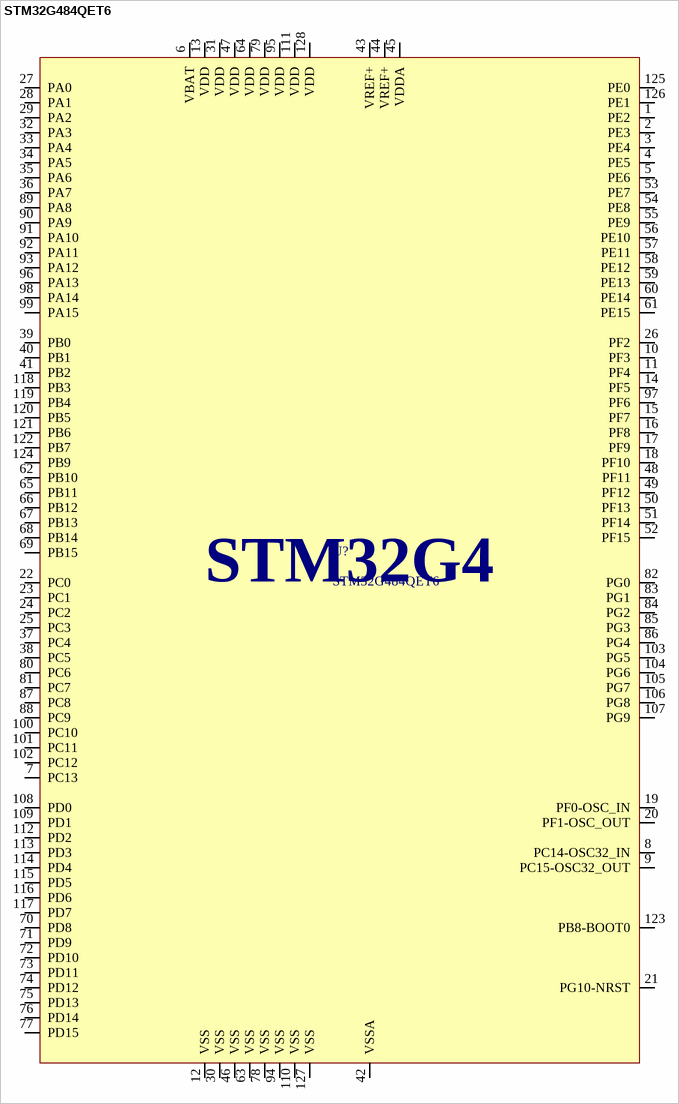
[diagram p30: symbol STM32G484QET6]

## STM32G484QET6
designator U?
STM32G4 Microcontroller LQFP-128 170 MHz 107 I/O; Manufacturer: STMicroelectronics; Manufacturer Part Number: STM32G484QET6
footprint LQFP-128 (CQFP, 128-Leads, Body 16,00x16,00mm, Pitch 0,40mm, IPC Medium Density)
pins: 1 PE2, 2 PE3, 3 PE4, 4 PE5, 5 PE6, 6 VBAT, 7 PC13, 8 PC14-OSC32_IN, 9 PC15-OSC32_OUT, 10 PF3, 11 PF4, 12 VSS, 13 VDD, 14 PF5, 15 PF7, 16 PF8, 17 PF9, 18 PF10, 19 PF0-OSC_IN, 20 PF1-OSC_OUT, 21 PG10-NRST, 22 PC0, 23 PC1, 24 PC2, 25 PC3, 26 PF2, 27 PA0, 28 PA1, 29 PA2, 30 VSS, 31 VDD, 32 PA3, 33 PA4, 34 PA5, 35 PA6, 36 PA7, 37 PC4, 38 PC5, 39 PB0, 40 PB1, 41 PB2, 42 VSSA, 43 VREF+, 44 VREF+, 45 VDDA, 46 VSS, 47 VDD, 48 PF11, 49 PF12, 50 PF13, 51 PF14, 52 PF15, 53 PE7, 54 PE8, 55 PE9, 56 PE10, 57 PE11, 58 PE12, 59 PE13, 60 PE14, 61 PE15, 62 PB10, 63 VSS, 64 VDD, 65 PB11, 66 PB12, 67 PB13, 68 PB14, 69 PB15, 70 PD8, 71 PD9, 72 PD10, 73 PD11, 74 PD12, 75 PD13, 76 PD14, 77 PD15, 78 VSS, 79 VDD, 80 PC6, 81 PC7, 82 PG0, 83 PG1, 84 PG2, 85 PG3, 86 PG4, 87 PC8, 88 PC9, 89 PA8, 90 PA9, 91 PA10, 92 PA11, 93 PA12, 94 VSS, 95 VDD, 96 PA13, 97 PF6, 98 PA14, 99 PA15, 100 PC10, 101 PC11, 102 PC12, 103 PG5, 104 PG6, 105 PG7, 106 PG8, 107 PG9, 108 PD0, 109 PD1, 110 VSS, 111 VDD, 112 PD2, 113 PD3, 114 PD4, 115 PD5, 116 PD6, 117 PD7, 118 PB3, 119 PB4, 120 PB5, 121 PB6, 122 PB7, 123 PB8-BOOT0, 124 PB9, 125 PE0, 126 PE1, 127 VSS, 128 VDD
text: STM32G4

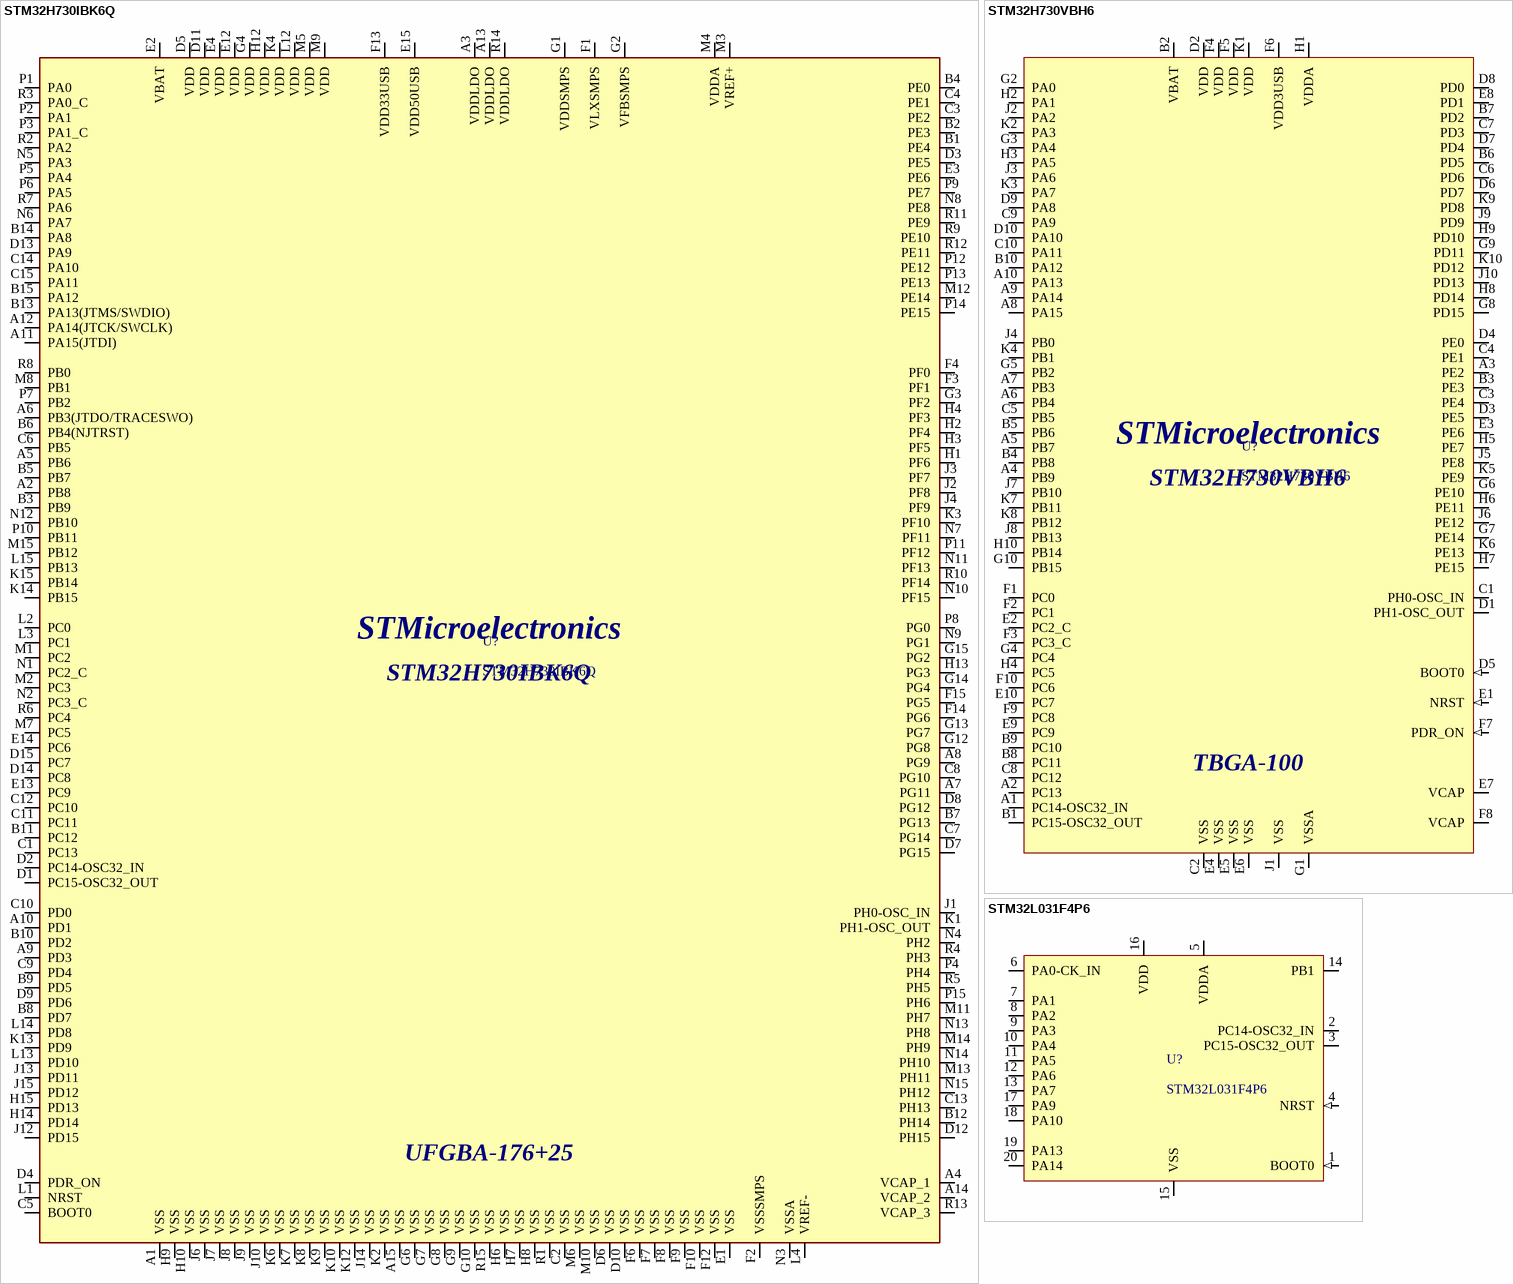
[diagram p31: symbols STM32H730IBK6Q to STM32L031F4P6]

## STM32H730IBK6Q
designator U?
Arm® Cortex®-M7 32b 550 MHz MCU, 128 KB Flash, 564 KB RAM, Ethernet, USB, 3xFD-CAN, Graphics, 2x16b ADCs, crypto/hash, UFBGA-176+25 (10x10); Manufacturer: STMicroelectronics; Manufacturer Part Number: STM32H730IBK6Q
footprint UFBGA176+25
pins: A1 VSS, A2 PB8, A3 VDDLDO, A4 VCAP_1, A5 PB6, A6 PB3(JTDO/TRACESWO), A7 PG11, A8 PG9, A9 PD3, A10 PD1, A11 PA15(JTDI), A12 PA14(JTCK/SWCLK), A13 VDDLDO, A14 VCAP_2, A15 VSS, B1 PE4, B2 PE3, B3 PB9, B4 PE0, B5 PB7, B6 PB4(NJTRST), B7 PG13, B8 PD7, B9 PD5, B10 PD2, B11 PC12, B12 PH14, B13 PA13(JTMS/SWDIO), B14 PA8, B15 PA12, C1 PC13, C2 VSS, C3 PE2, C4 PE1, C5 BOOT0, C6 PB5, C7 PG14, C8 PG10, C9 PD4, C10 PD0, C11 PC11, C12 PC10, C13 PH13, C14 PA10, C15 PA11, D1 PC15-OSC32_OUT, D2 PC14-OSC32_IN, D3 PE5, D4 PDR_ON, D5 VDD, D6 VSS, D7 PG15, D8 PG12, D9 PD6, D10 VSS, D11 VDD, D12 PH15, D13 PA9, D14 PC8, D15 PC7, E1 VSS, E2 VBAT, E3 PE6, E4 VDD, E12 VDD, E13 PC9, E14 PC6, E15 VDD50USB, F1 VLXSMPS, F2 VSSSMPS, F3 PF1, F4 PF0, F6 VSS, F7 VSS, F8 VSS, F9 VSS, F10 VSS, F12 VSS, F13 VDD33USB, F14 PG6, F15 PG5, G1 VDDSMPS, G2 VFBSMPS, G3 PF2, G4 VDD, G6 VSS, G7 VSS, G8 VSS, G9 VSS, G10 VSS, G12 PG8, G13 PG7, G14 PG4, G15 PG2, H1 PF6, H2 PF4, H3 PF5, H4 PF3, H6 VSS, H7 VSS, H8 VSS, H9 VSS, H10 VSS, H12 VDD, H13 PG3, H14 PD14, H15 PD13, J1 PH0-OSC_IN, J2 PF8, J3 PF7, J4 PF9, J6 VSS, J7 VSS, J8 VSS, J9 VSS, J10 VSS, J12 PD15, J13 PD11, J14 VSS, J15 PD12, K1 PH1-OSC_OUT, K2 VSS, K3 PF10, K4 VDD, K6 VSS, K7 VSS, K8 VSS, K9 VSS, K10 VSS, K12 VSS, K13 PD9, K14 PB15, K15 PB14, L1 NRST, L2 PC0, L3 PC1, L4 VREF-, L12 VDD, L13 PD10, L14 PD8, L15 PB13, M1 PC2, M2 PC3, M3 VREF+, M4 VDDA, M5 VDD, M6 VSS, M7 PC5, M8 PB1, M9 VDD, M10 VSS, M11 PH7, M12 PE14, M13 PH11, M14 PH9, M15 PB12, N1 PC2_C, N2 PC3_C, N3 VSSA, N4 PH2, N5 PA3, N6 PA7, N7 PF11, N8 PE8, N9 PG1, N10 PF15, N11 PF13, N12 PB10, N13 PH8, N14 PH10, N15 PH12, P1 PA0, P2 PA1, P3 PA1_C, P4 PH4, P5 PA4, P6 PA5, P7 PB2, P8 PG0, P9 PE7, P10 PB11, P11 PF12, P12 PE12, P13 PE13, P14 PE15, P15 PH6, R1 VSS, R2 PA2, R3 PA0_C, R4 PH3, R5 PH5, R6 PC4, R7 PA6, R8 PB0, R9 PE10, R10 PF14, R11 PE9, R12 PE11, R13 VCAP_3, R14 VDDLDO, R15 VSS
text: UFGBA-176+25

## STM32H730VBH6
designator U?
32-bit Arm® Cortex®-M7 550 MHz MCU, 128 KB Flash, 564 KB RAM, 35 comms peripherals and analog interfaces, TFBGA-100; Manufacturer: STMicroelectronics; Manufacturer Part Number: STM32H730VBH6
pins: A1 PC14-OSC32_IN (io), A2 PC13 (io), A3 PE2 (io), A4 PB9 (io), A5 PB7 (io), A6 PB4 (io), A7 PB3 (io), A8 PA15 (io), A9 PA14 (io), A10 PA13 (io), B1 PC15-OSC32_OUT (io), B2 VBAT (power), B3 PE3 (io), B4 PB8 (io), B5 PB6 (io), B6 PD5 (io), B7 PD2 (io), B8 PC11 (io), B9 PC10 (io), B10 PA12 (io), C1 PH0-OSC_IN (io), C2 VSS (power), C3 PE4 (io), C4 PE1 (io), C5 PB5 (io), C6 PD6 (io), C7 PD3 (io), C8 PC12 (io), C9 PA9 (io), C10 PA11 (io), D1 PH1-OSC_OUT (io), D2 VDD (power), D3 PE5 (io), D4 PE0 (io), D5 BOOT0 (in), D6 PD7 (io), D7 PD4 (io), D8 PD0 (io), D9 PA8 (io), D10 PA10 (io), E1 NRST (in), E2 PC2_C (io), E3 PE6 (io), E4 VSS (power), E5 VSS (power), E6 VSS (power), E7 VCAP (power), E8 PD1 (io), E9 PC9 (io), E10 PC7 (io), F1 PC0 (io), F2 PC1 (io), F3 PC3_C (io), F4 VDD (power), F5 VDD (power), F6 VDD3USB (power), F7 PDR_ON (in), F8 VCAP (power), F9 PC8 (io), F10 PC6 (io), G1 VSSA (power), G2 PA0 (io), G3 PA4 (io), G4 PC4 (io), G5 PB2 (io), G6 PE10 (io), G7 PE14 (io), G8 PD15 (io), G9 PD11 (io), G10 PB15 (io), H1 VDDA (power), H2 PA1 (io), H3 PA5 (io), H4 PC5 (io), H5 PE7 (io), H6 PE11 (io), H7 PE15 (io), H8 PD14 (io), H9 PD10 (io), H10 PB14 (io), J1 VSS (power), J2 PA2 (io), J3 PA6 (io), J4 PB0 (io), J5 PE8 (io), J6 PE12 (io), J7 PB10 (io), J8 PB13 (io), J9 PD9 (io), J10 PD13 (io), K1 VDD (power), K2 PA3 (io), K3 PA7 (io), K4 PB1 (io), K5 PE9 (io), K6 PE13 (io), K7 PB11 (io), K8 PB12 (io), K9 PD8 (io), K10 PD12 (io)
text: TBGA-100